# Altium integrated library PowerProducts.IntLib: 595 symbols (part 4 of 6)

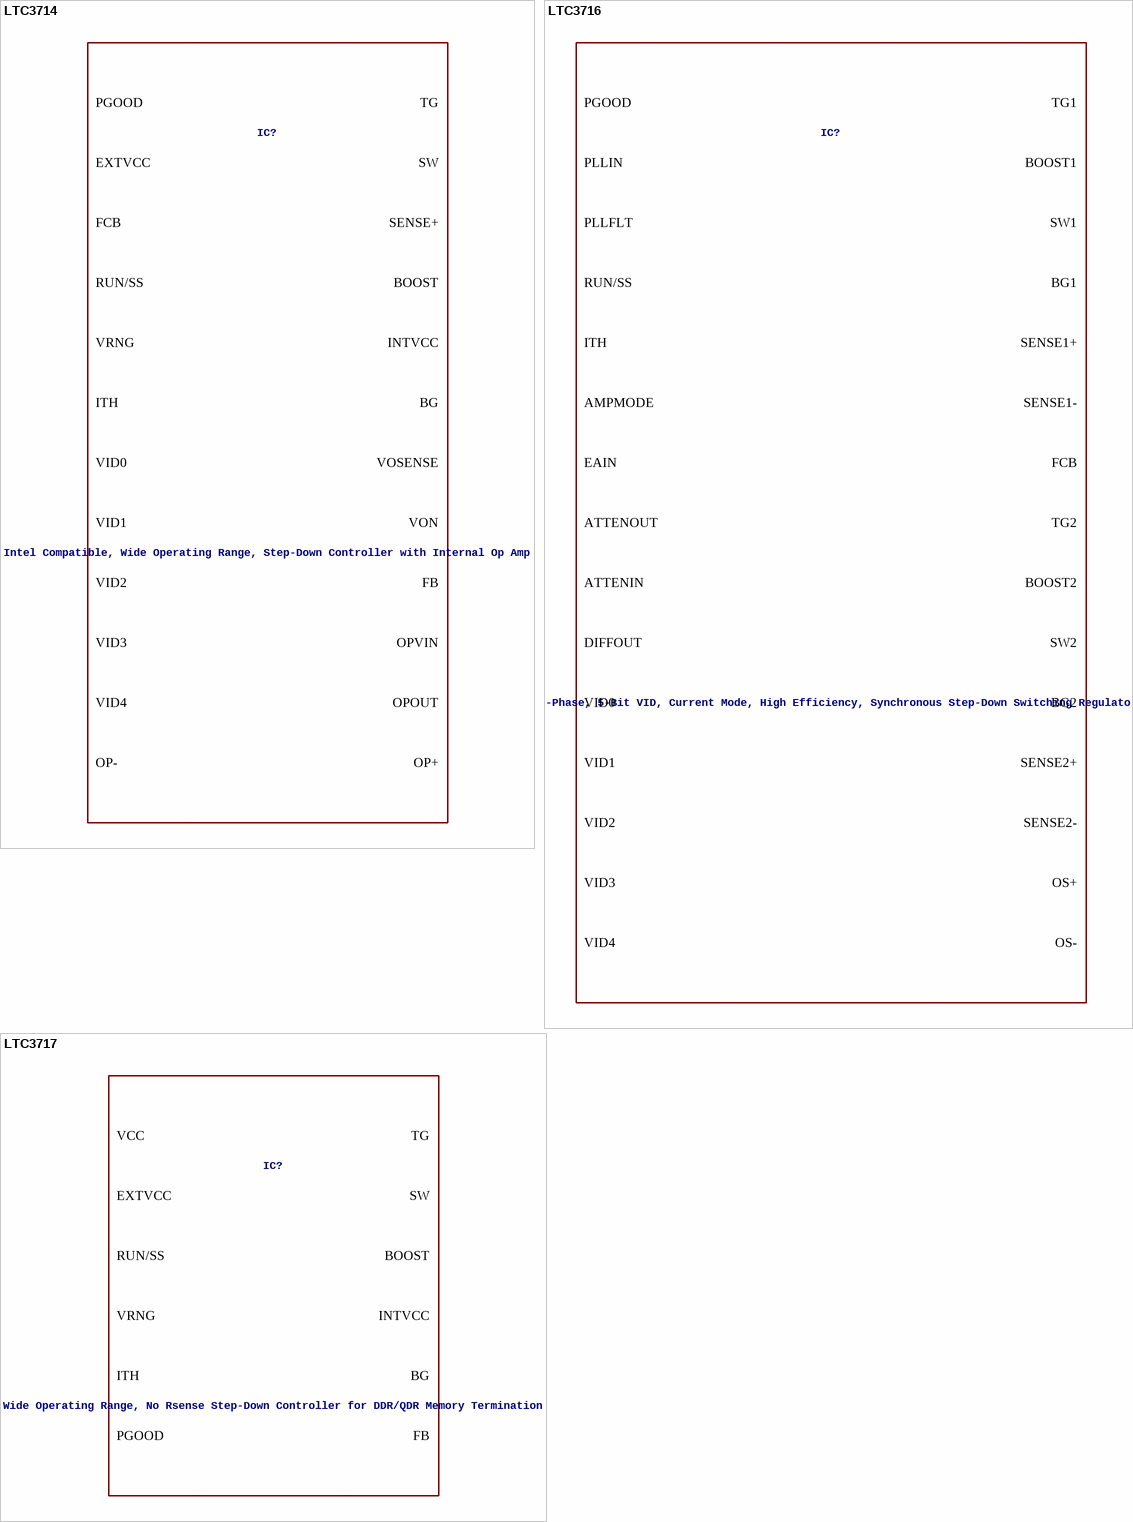
[diagram p66: symbols LTC3714 to LTC3717]

## LTC3714
designator IC?, comment Intel Compatible, Wide Operating Range, Step-Down Controller with Internal Op Amp
VALUE2: LTC3714; SPICEMODEL: LTC3714.sub; SPICEPREFIX: X
footprint SSOP28(G)
pins: 1 BG, 2 PGND, 3 SENSE+, 4 SW, 5 TG, 6 BOOST, 7 VID0, 8 VID1, 9 VID2, 10 RUN/SS, 11 VON, 12 PGOOD, 13 VRNG, 14 ITH, 15 OPVIN, 16 OP-, 17 OP+, 18 OPOUT, 19 SGND, 20 FCB, 21 ION, 22 FB, 23 VOSENSE, 24 VID3, 25 VID4, 26 EXTVCC, 27 VIN, 28 INTVCC

## LTC3716
designator IC?, comment 2-Phase, 5-Bit VID, Current Mode, High Efficiency, Synchronous Step-Down Switching Regulator
VALUE2: LTC3716; SPICEMODEL: LTC3716.sub; SPICEPREFIX: X
footprint SSOP36(G)
pins: 1 RUN/SS, 2 SENSE1+, 3 SENSE1-, 4 EAIN, 5 PLLFLT, 6 PLLIN, 7 FCB, 8 ITH, 9 SGND, 10 DIFFOUT, 11 OS-, 12 OS+, 13 SENSE2-, 14 SENSE2+, 15 ATTENOUT, 16 ATTENIN, 17 VID0, 18 VID1, 19 VID2, 20 VID3, 21 VID4, 22 VBIAS, 23 AMPMODE, 24 TG2, 25 SW2, 26 BOOST2, 27 BG2, 28 PGND, 29 INTVCC, 30 EXTVCC, 31 BG1, 32 VIN, 33 BOOST1, 34 SW1, 35 TG1, 36 PGOOD

## LTC3717
designator IC?, comment Wide Operating Range, No Rsense Step-Down Controller for DDR/QDR Memory Termination
VALUE2: LTC3717; SPICEMODEL: LTC3717.sub; SPICEPREFIX: X
footprint SSOP16(GN)
pins: 1 RUN/SS, 2 PGOOD, 3 VRNG, 4 ITH, 5 SGND, 6 ION, 7 FB, 8 VREF, 9 EXTVCC, 10 VCC, 11 INTVCC, 12 BG, 13 PGND, 14 SW, 15 TG, 16 BOOST

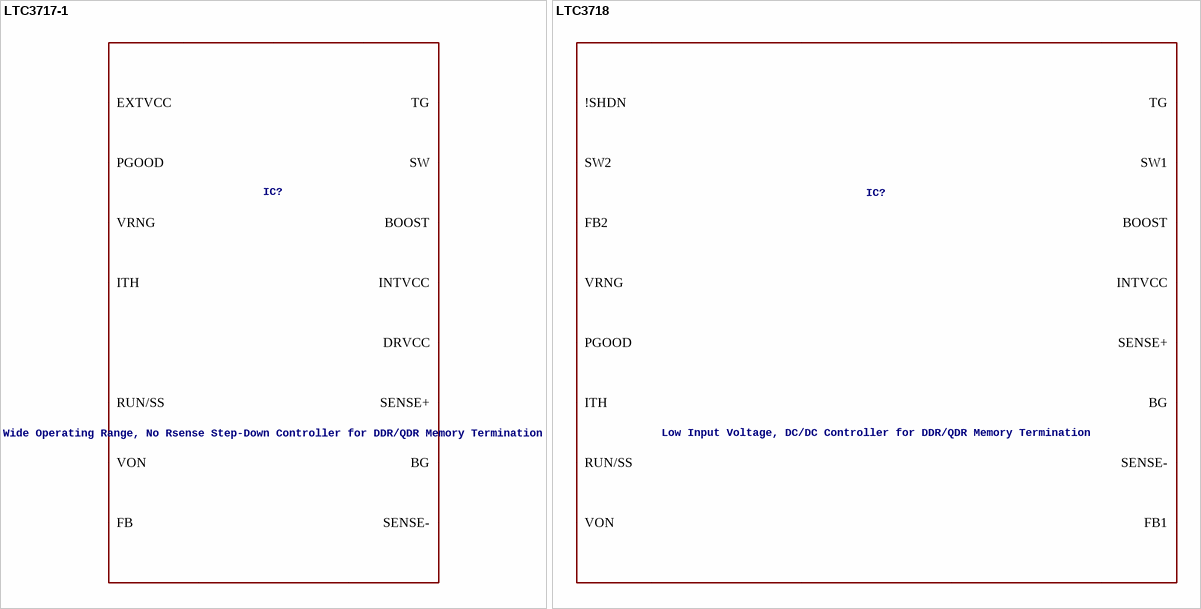
[diagram p67: symbols LTC3717-1 to LTC3718]

## LTC3717-1
designator IC?, comment Wide Operating Range, No Rsense Step-Down Controller for DDR/QDR Memory Termination
VALUE2: LTC3717-1; SPICEMODEL: LTC3717-1.sub; SPICEPREFIX: X
footprint QFN32(UH)
pins: 1 VON, 2 PGOOD, 3 VRNG, 4 ITH, 5 33 SGND, 6 ION, 7 FB, 10 VREF, 15 EXTVCC, 16 VIN, 17 INTVCC, 18 DRVCC, 19 BG, 20 PGND, 21 SENSE-, 23 SENSE+, 24 SW, 27 TG, 28 BOOST, 31 RUN/SS

## LTC3718
designator IC?, comment Low Input Voltage, DC/DC Controller for DDR/QDR Memory Termination
VALUE2: LTC3718; SPICEMODEL: LTC3718.sub; SPICEPREFIX: X
footprint SSOP24(G)
pins: 1 RUN/SS, 2 VON, 3 PGOOD, 4 VRNG, 5 ITH, 6 SGND1, 7 ION, 8 FB1, 9 VREF, 10 !SHDN, 11 SGND2, 12 FB2, 13 SW2, 14 PGND2, 15 VIN2, 16 VIN1, 17 INTVCC, 18 BG, 19 PGND1, 20 SENSE-, 21 SENSE+, 22 SW1, 23 TG, 24 BOOST

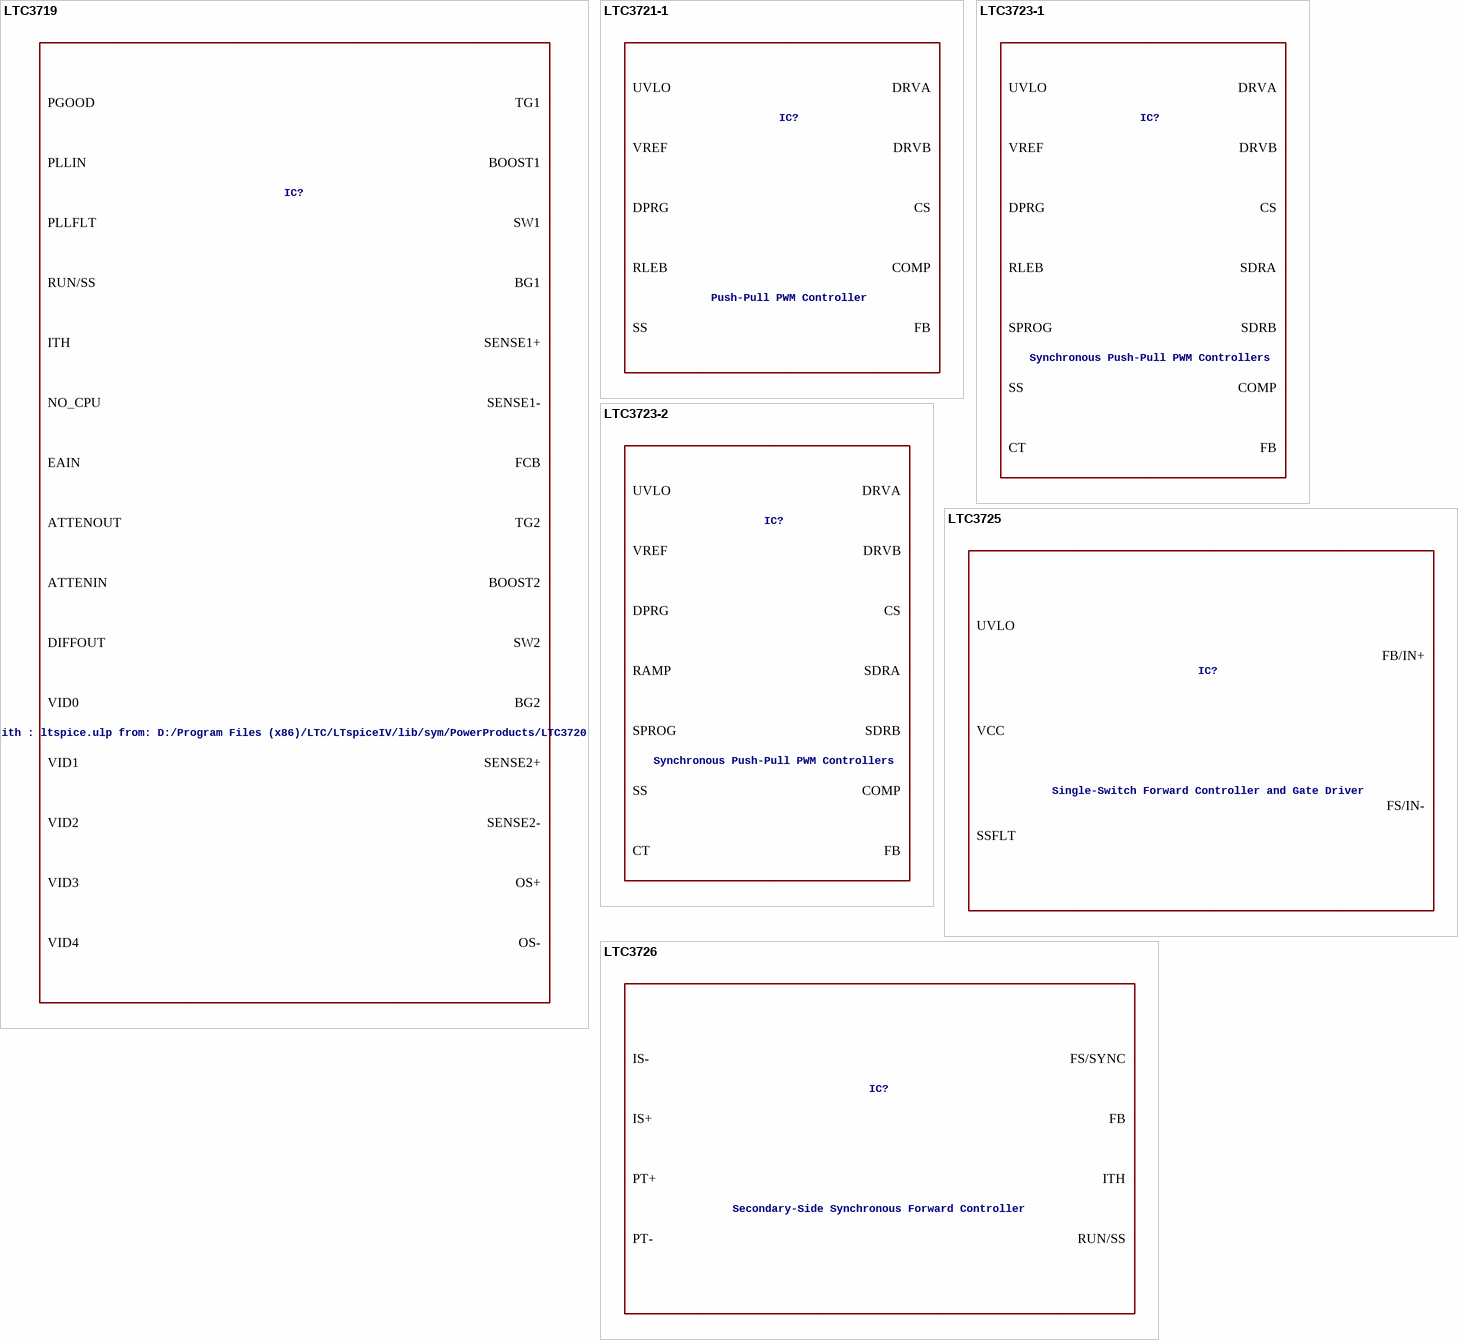
[diagram p68: symbols LTC3719 to LTC3726]

## LTC3719
designator IC?, comment LT-Spice library generated with : ltspice.ulp from: D:/Program Files (x86)/LTC/LTspiceIV/lib/sym/PowerProducts/LTC3720*.asy at 07.10.2012 18:31:01
VALUE2: LTC3719; SPICEMODEL: LTC3719.sub; SPICEPREFIX: X
footprint SSOP36(G)
pins: 1 RUN/SS, 2 SENSE1+, 3 SENSE1-, 4 EAIN, 5 PLLFLT, 6 PLLIN, 7 FCB, 8 ITH, 9 SGND, 10 DIFFOUT, 11 OS-, 12 OS+, 13 SENSE2-, 14 SENSE2+, 15 ATTENOUT, 16 NO_CPU, 17 VID0, 18 VID1, 19 VID2, 20 VID3, 21 VID4, 22 VBIAS, 23 ATTENIN, 24 TG2, 25 SW2, 26 BOOST2, 27 BG2, 28 PGND, 29 INTVCC, 30 EXTVCC, 31 BG1, 32 VIN, 33 BOOST1, 34 SW1, 35 TG1, 36 PGOOD

## LTC3721-1
designator IC?, comment Push-Pull PWM Controller
VALUE2: LTC3721-1; SPICEMODEL: LTC3721-1.sub; SPICEPREFIX: X
footprint QFN16(UF)
pins: 1 DRVB, 2 VCC, 3 DRVA, 4 PGND, 5 17 SGND, 6 CT, 8 DPRG, 9 CS, 10 COMP, 11 RLEB, 12 FB, 13 SS, 14 UVLO, 15 VREF

## LTC3723-1
designator IC?, comment Synchronous Push-Pull PWM Controllers
VALUE2: LTC3723-1; SPICEMODEL: LTC3723-1.sub; SPICEPREFIX: X
footprint SSOP16(GN)
pins: 1 VREF, 2 SDRB, 3 SDRA, 4 DRVB, 5 VCC, 6 DRVA, 7 GND, 8 CT, 9 DPRG, 10 CS, 11 COMP, 12 RLEB, 13 FB, 14 SS, 15 UVLO, 16 SPROG

## LTC3723-2
designator IC?, comment Synchronous Push-Pull PWM Controllers
VALUE2: LTC3723-2; SPICEMODEL: LTC3723-2.sub; SPICEPREFIX: X
footprint SSOP16(GN)
pins: 1 VREF, 2 SDRB, 3 SDRA, 4 DRVB, 5 VCC, 6 DRVA, 7 GND, 8 CT, 9 RAMP, 10 CS, 11 COMP, 12 DPRG, 13 FB, 14 SS, 15 UVLO, 16 SPROG

## LTC3725
designator IC?, comment Single-Switch Forward Controller and Gate Driver
VALUE2: LTC3725; SPICEMODEL: LTC3725.sub; SPICEPREFIX: X
footprint MSOP10(MSE)
pins: 1 UVLO, 2 SSFLT, 3 NDRV, 4 FB/IN+, 5 FS/IN-, 6 PGND, 7 GATE, 8 VCC, 9 VSLMT, 10 IS, 11 GND

## LTC3726
designator IC?, comment Secondary-Side Synchronous Forward Controller
VALUE2: LTC3726; SPICEMODEL: LTC3726.sub; SPICEPREFIX: X
footprint SSOP16(GN)
pins: 1 SG, 2 FG, 3 MODE, 4 FB, 5 ITH, 6 RUN/SS, 7 SLP, 8 GND, 9 FS/SYNC, 10 IS-, 11 IS+, 12 SW, 13 PGND, 14 PT-, 15 PT+, 16 VCC

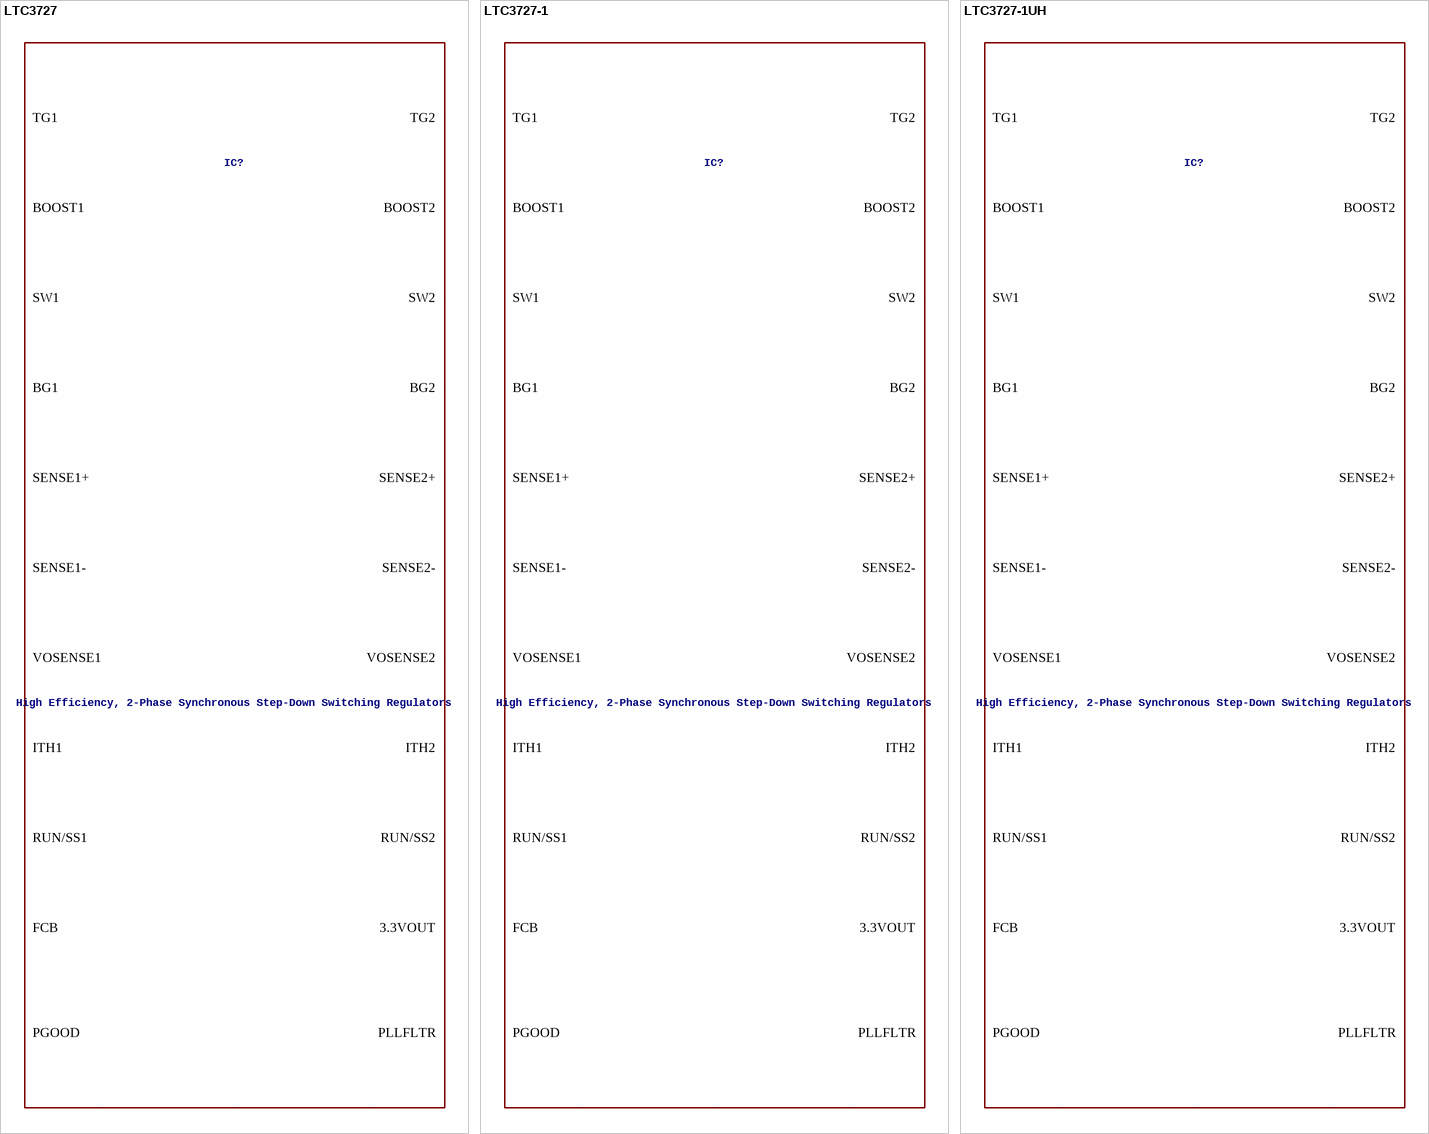
[diagram p69: symbols LTC3727 to LTC3727-1UH]

## LTC3727
designator IC?, comment High Efficiency, 2-Phase Synchronous Step-Down Switching Regulators
VALUE2: LTC3727; SPICEMODEL: LTC3727.sub; SPICEPREFIX: X
footprint SSOP28(G)
pins: 1 RUN/SS1, 2 SENSE1+, 3 SENSE1-, 4 VOSENSE1, 5 PLLFLTR, 6 PLLIN, 7 FCB, 8 ITH1, 9 SGND, 10 3.3VOUT, 11 ITH2, 12 VOSENSE2, 13 SENSE2-, 14 SENSE2+, 15 RUN/SS2, 16 TG2, 17 SW2, 18 BOOST2, 19 BG2, 20 PGND, 21 INTVCC, 22 EXTVCC, 23 BG1, 24 VIN, 25 BOOST1, 26 SW1, 27 TG1, 28 PGOOD

## LTC3727-1
designator IC?, comment High Efficiency, 2-Phase Synchronous Step-Down Switching Regulators
VALUE2: LTC3727; SPICEMODEL: LTC3727.sub; SPICEPREFIX: X
footprint SSOP28(G)
pins: 1 RUN/SS1, 2 SENSE1+, 3 SENSE1-, 4 VOSENSE1, 5 PLLFLTR, 6 PLLIN, 7 FCB, 8 ITH1, 9 SGND, 10 3.3VOUT, 11 ITH2, 12 VOSENSE2, 13 SENSE2-, 14 SENSE2+, 15 RUN/SS2, 16 TG2, 17 SW2, 18 BOOST2, 19 BG2, 20 PGND, 21 INTVCC, 22 EXTVCC, 23 BG1, 24 VIN, 25 BOOST1, 26 SW1, 27 TG1, 28 PGOOD

## LTC3727-1UH
designator IC?, comment High Efficiency, 2-Phase Synchronous Step-Down Switching Regulators
VALUE2: LTC3727; SPICEMODEL: LTC3727.sub; SPICEPREFIX: X
footprint QFN32(UH)
pins: 1 VOSENSE1, 2 PLLFLTR, 3 PLLIN, 4 FCB, 5 ITH1, 6 33 SGND, 7 3.3VOUT, 8 ITH2, 9 VOSENSE2, 11 SENSE2-, 12 SENSE2+, 13 RUN/SS2, 14 TG2, 15 SW2, 17 BOOST2, 18 BG2, 19 PGND, 20 INTVCC, 21 EXTVCC, 22 BG1, 23 VIN, 24 BOOST1, 25 SW1, 26 TG1, 27 PGOOD, 28 RUN/SS1, 30 SENSE1+, 31 SENSE1-

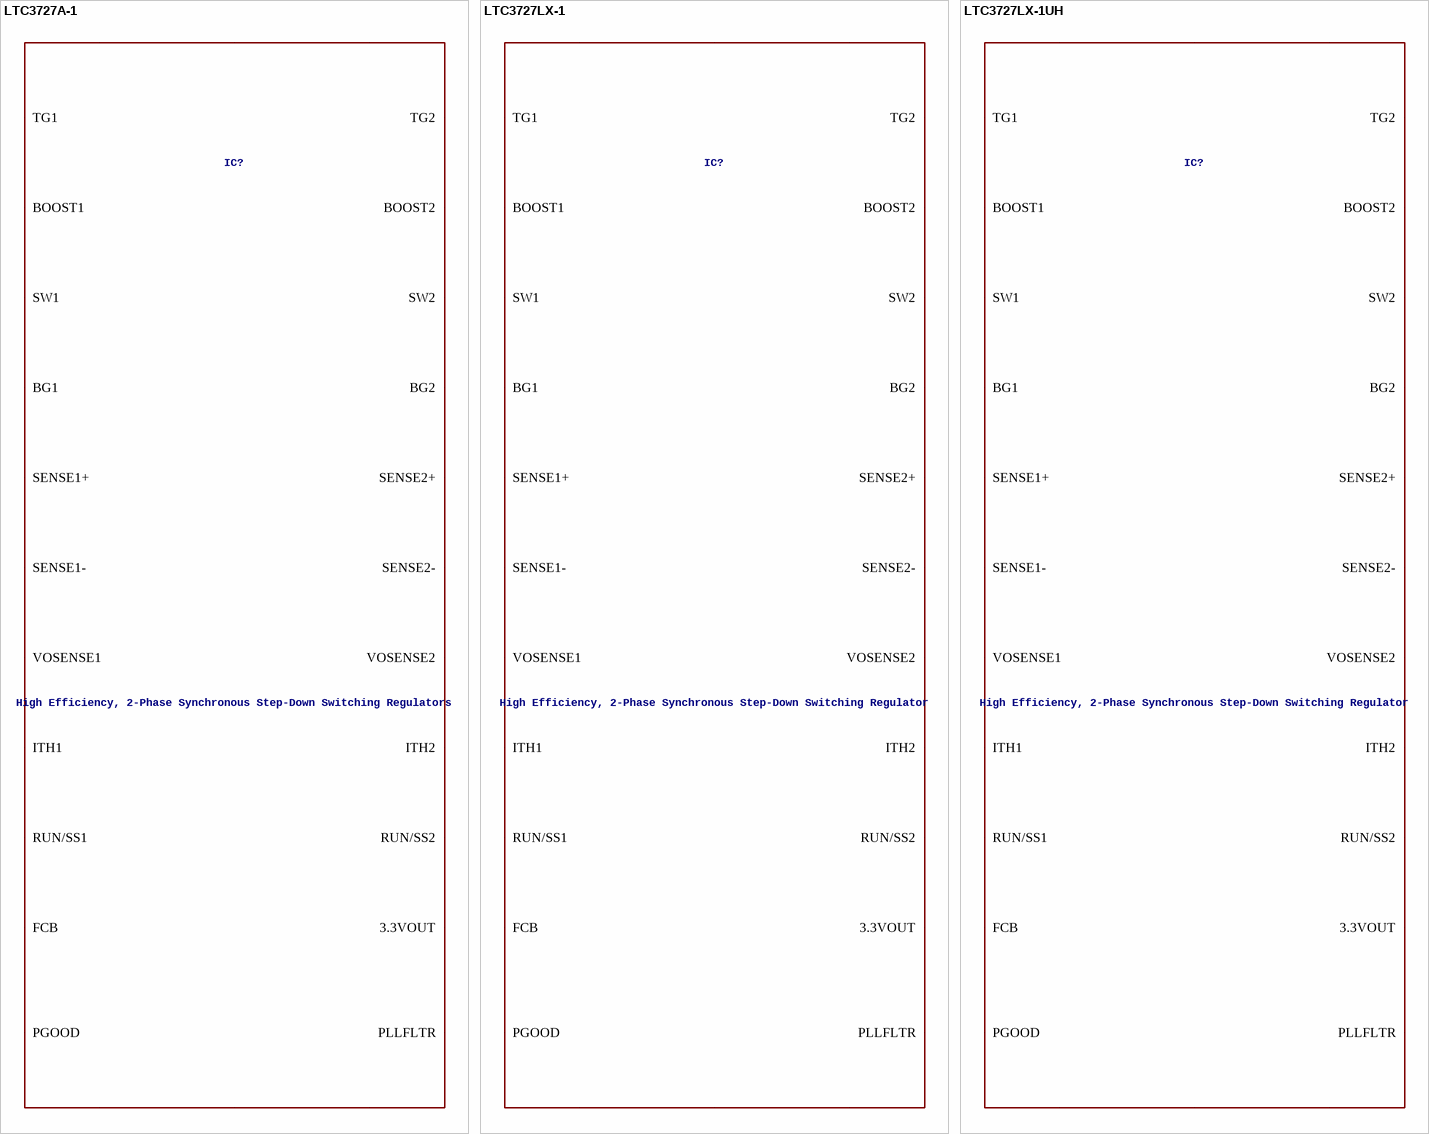
[diagram p70: symbols LTC3727A-1 to LTC3727LX-1UH]

## LTC3727A-1
designator IC?, comment High Efficiency, 2-Phase Synchronous Step-Down Switching Regulators
VALUE2: LTC3727A-1; SPICEMODEL: LTC3727A-1.sub; SPICEPREFIX: X
footprint SSOP28(G)
pins: 1 RUN/SS1, 2 SENSE1+, 3 SENSE1-, 4 VOSENSE1, 5 PLLFLTR, 6 PLLIN, 7 FCB, 8 ITH1, 9 SGND, 10 3.3VOUT, 11 ITH2, 12 VOSENSE2, 13 SENSE2-, 14 SENSE2+, 15 RUN/SS2, 16 TG2, 17 SW2, 18 BOOST2, 19 BG2, 20 PGND, 21 INTVCC, 22 EXTVCC, 23 BG1, 24 VIN, 25 BOOST1, 26 SW1, 27 TG1, 28 PGOOD

## LTC3727LX-1
designator IC?, comment High Efficiency, 2-Phase Synchronous Step-Down Switching Regulator
VALUE2: LTC3727A-1; SPICEMODEL: LTC3727A-1.sub; SPICEPREFIX: X
footprint SSOP28(G)
pins: 1 RUN/SS1, 2 SENSE1+, 3 SENSE1-, 4 VOSENSE1, 5 PLLFLTR, 6 PLLIN, 7 FCB, 8 ITH1, 9 SGND, 10 3.3VOUT, 11 ITH2, 12 VOSENSE2, 13 SENSE2-, 14 SENSE2+, 15 RUN/SS2, 16 TG2, 17 SW2, 18 BOOST2, 19 BG2, 20 PGND, 21 INTVCC, 22 EXTVCC, 23 BG1, 24 VIN, 25 BOOST1, 26 SW1, 27 TG1, 28 PGOOD

## LTC3727LX-1UH
designator IC?, comment High Efficiency, 2-Phase Synchronous Step-Down Switching Regulator
VALUE2: LTC3727A-1; SPICEMODEL: LTC3727A-1.sub; SPICEPREFIX: X
footprint QFN32(UH)
pins: 1 VOSENSE1, 2 PLLFLTR, 3 PLLIN, 4 FCB, 5 ITH1, 6 33 SGND, 7 3.3VOUT, 8 ITH2, 9 VOSENSE2, 11 SENSE2-, 12 SENSE2+, 13 RUN/SS2, 14 TG2, 15 SW2, 17 BOOST2, 18 BG2, 19 PGND, 20 INTVCC, 21 EXTVCC, 22 BG1, 23 VIN, 24 BOOST1, 25 SW1, 26 TG1, 27 PGOOD, 28 RUN/SS1, 30 SENSE1+, 31 SENSE1-

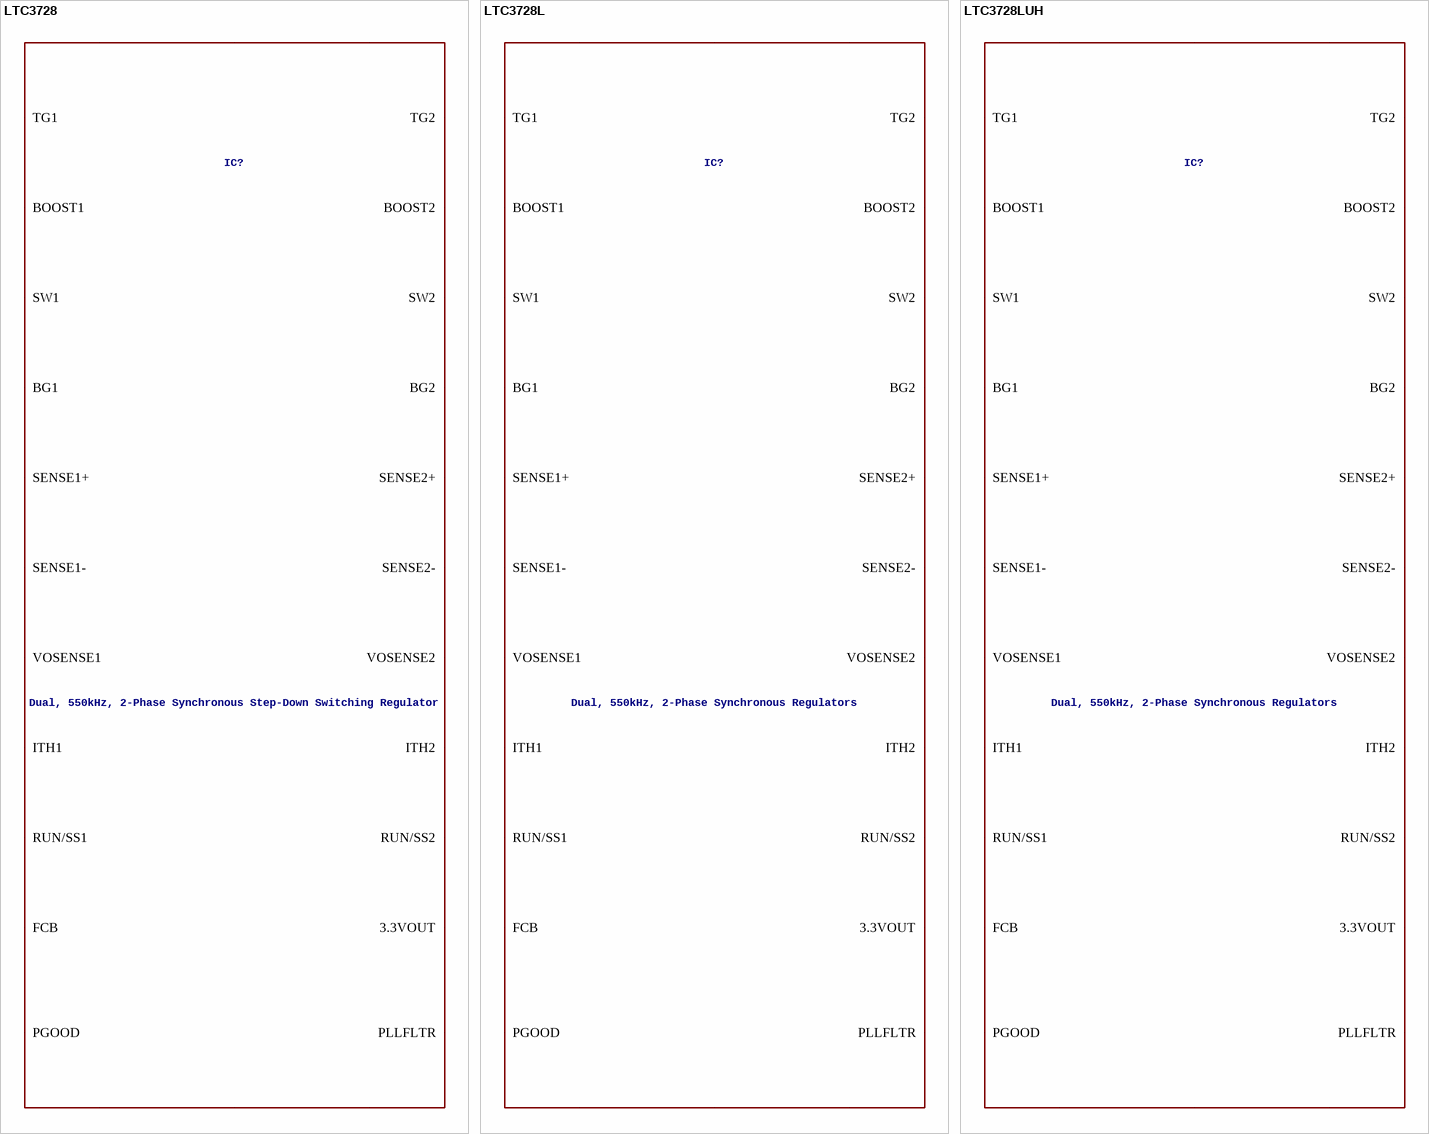
[diagram p71: symbols LTC3728 to LTC3728LUH]

## LTC3728
designator IC?, comment Dual, 550kHz, 2-Phase Synchronous Step-Down Switching Regulator
VALUE2: LTC3728; SPICEMODEL: LTC3728.sub; SPICEPREFIX: X
footprint SSOP28(G)
pins: 1 RUN/SS1, 2 SENSE1+, 3 SENSE1-, 4 VOSENSE1, 5 PLLFLTR, 6 PLLIN, 7 FCB, 8 ITH1, 9 SGND, 10 3.3VOUT, 11 ITH2, 12 VOSENSE2, 13 SENSE2-, 14 SENSE2+, 15 RUN/SS2, 16 TG2, 17 SW2, 18 BOOST2, 19 BG2, 20 PGND, 21 INTVCC, 22 EXTVCC, 23 BG1, 24 VIN, 25 BOOST1, 26 SW1, 27 TG1, 28 PGOOD

## LTC3728L
designator IC?, comment Dual, 550kHz, 2-Phase Synchronous Regulators
VALUE2: LTC3728; SPICEMODEL: LTC3728.sub; SPICEPREFIX: X
footprint SSOP28(GN)
pins: 1 RUN/SS1, 2 SENSE1+, 3 SENSE1-, 4 VOSENSE1, 5 PLLFLTR, 6 PLLIN, 7 FCB, 8 ITH1, 9 SGND, 10 3.3VOUT, 11 ITH2, 12 VOSENSE2, 13 SENSE2-, 14 SENSE2+, 15 RUN/SS2, 16 TG2, 17 SW2, 18 BOOST2, 19 BG2, 20 PGND, 21 INTVCC, 22 EXTVCC, 23 BG1, 24 VIN, 25 BOOST1, 26 SW1, 27 TG1, 28 PGOOD

## LTC3728LUH
designator IC?, comment Dual, 550kHz, 2-Phase Synchronous Regulators
VALUE2: LTC3728; SPICEMODEL: LTC3728.sub; SPICEPREFIX: X
footprint QFN32(UH)
pins: 1 VOSENSE1, 2 PLLFLTR, 3 PLLIN, 4 FCB, 5 ITH1, 6 33 SGND, 7 3.3VOUT, 8 ITH2, 9 VOSENSE2, 11 SENSE2-, 12 SENSE2+, 13 RUN/SS2, 14 TG2, 15 SW2, 17 BOOST2, 18 BG2, 19 PGND, 20 INTVCC, 21 EXTVCC, 22 BG1, 23 VIN, 24 BOOST1, 25 SW1, 26 TG1, 27 PGOOD, 28 RUN/SS1, 30 SENSE1+, 31 SENSE1-

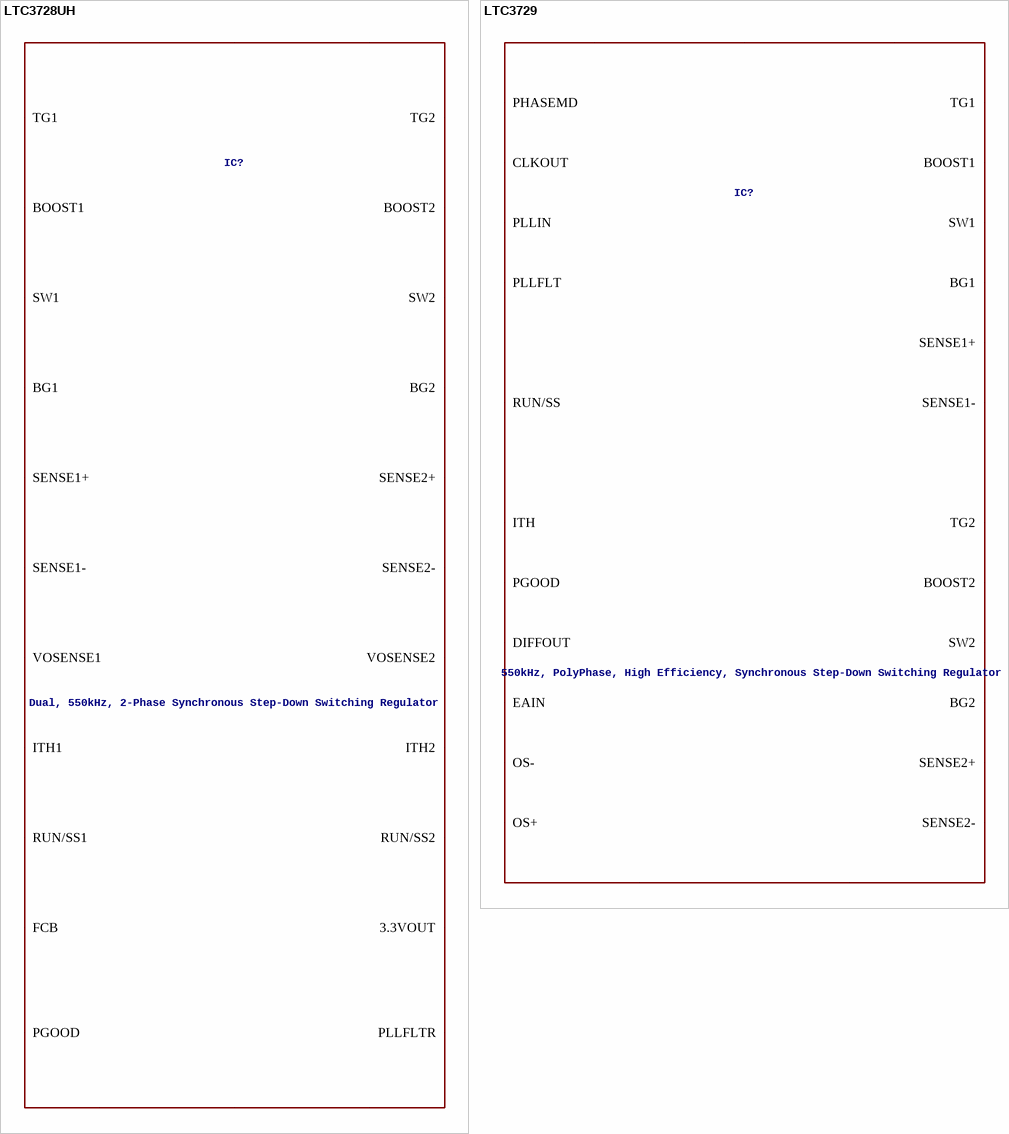
[diagram p72: symbols LTC3728UH to LTC3729]

## LTC3728UH
designator IC?, comment Dual, 550kHz, 2-Phase Synchronous Step-Down Switching Regulator
VALUE2: LTC3728; SPICEMODEL: LTC3728.sub; SPICEPREFIX: X
footprint QFN32(UH)
pins: 1 VOSENSE1, 2 PLLFLTR, 3 PLLIN, 4 FCB, 5 ITH1, 6 33 SGND, 7 3.3VOUT, 8 ITH2, 9 VOSENSE2, 11 SENSE2-, 12 SENSE2+, 13 RUN/SS2, 14 TG2, 15 SW2, 17 BOOST2, 18 BG2, 19 PGND, 20 INTVCC, 21 EXTVCC, 22 BG1, 23 VIN, 24 BOOST1, 25 SW1, 26 TG1, 27 PGOOD, 28 RUN/SS1, 30 SENSE1+, 31 SENSE1-

## LTC3729
designator IC?, comment 550kHz, PolyPhase, High Efficiency, Synchronous Step-Down Switching Regulator
VALUE2: LTC3729; SPICEMODEL: LTC3729.sub; SPICEPREFIX: X
footprint SSOP28(G)
pins: 1 RUN/SS, 2 SENSE1+, 3 SENSE1-, 4 EAIN, 5 PLLFLT, 6 PLLIN, 7 PHASEMD, 8 ITH, 9 SGND, 10 DIFFOUT, 11 OS-, 12 OS+, 13 SENSE2-, 14 SENSE2+, 15 PGOOD, 16 TG2, 17 SW2, 18 BOOST2, 19 BG2, 20 PGND, 21 INTVCC, 22 EXTVCC, 23 BG1, 24 VIN, 25 BOOST1, 26 SW1, 27 TG1, 28 CLKOUT

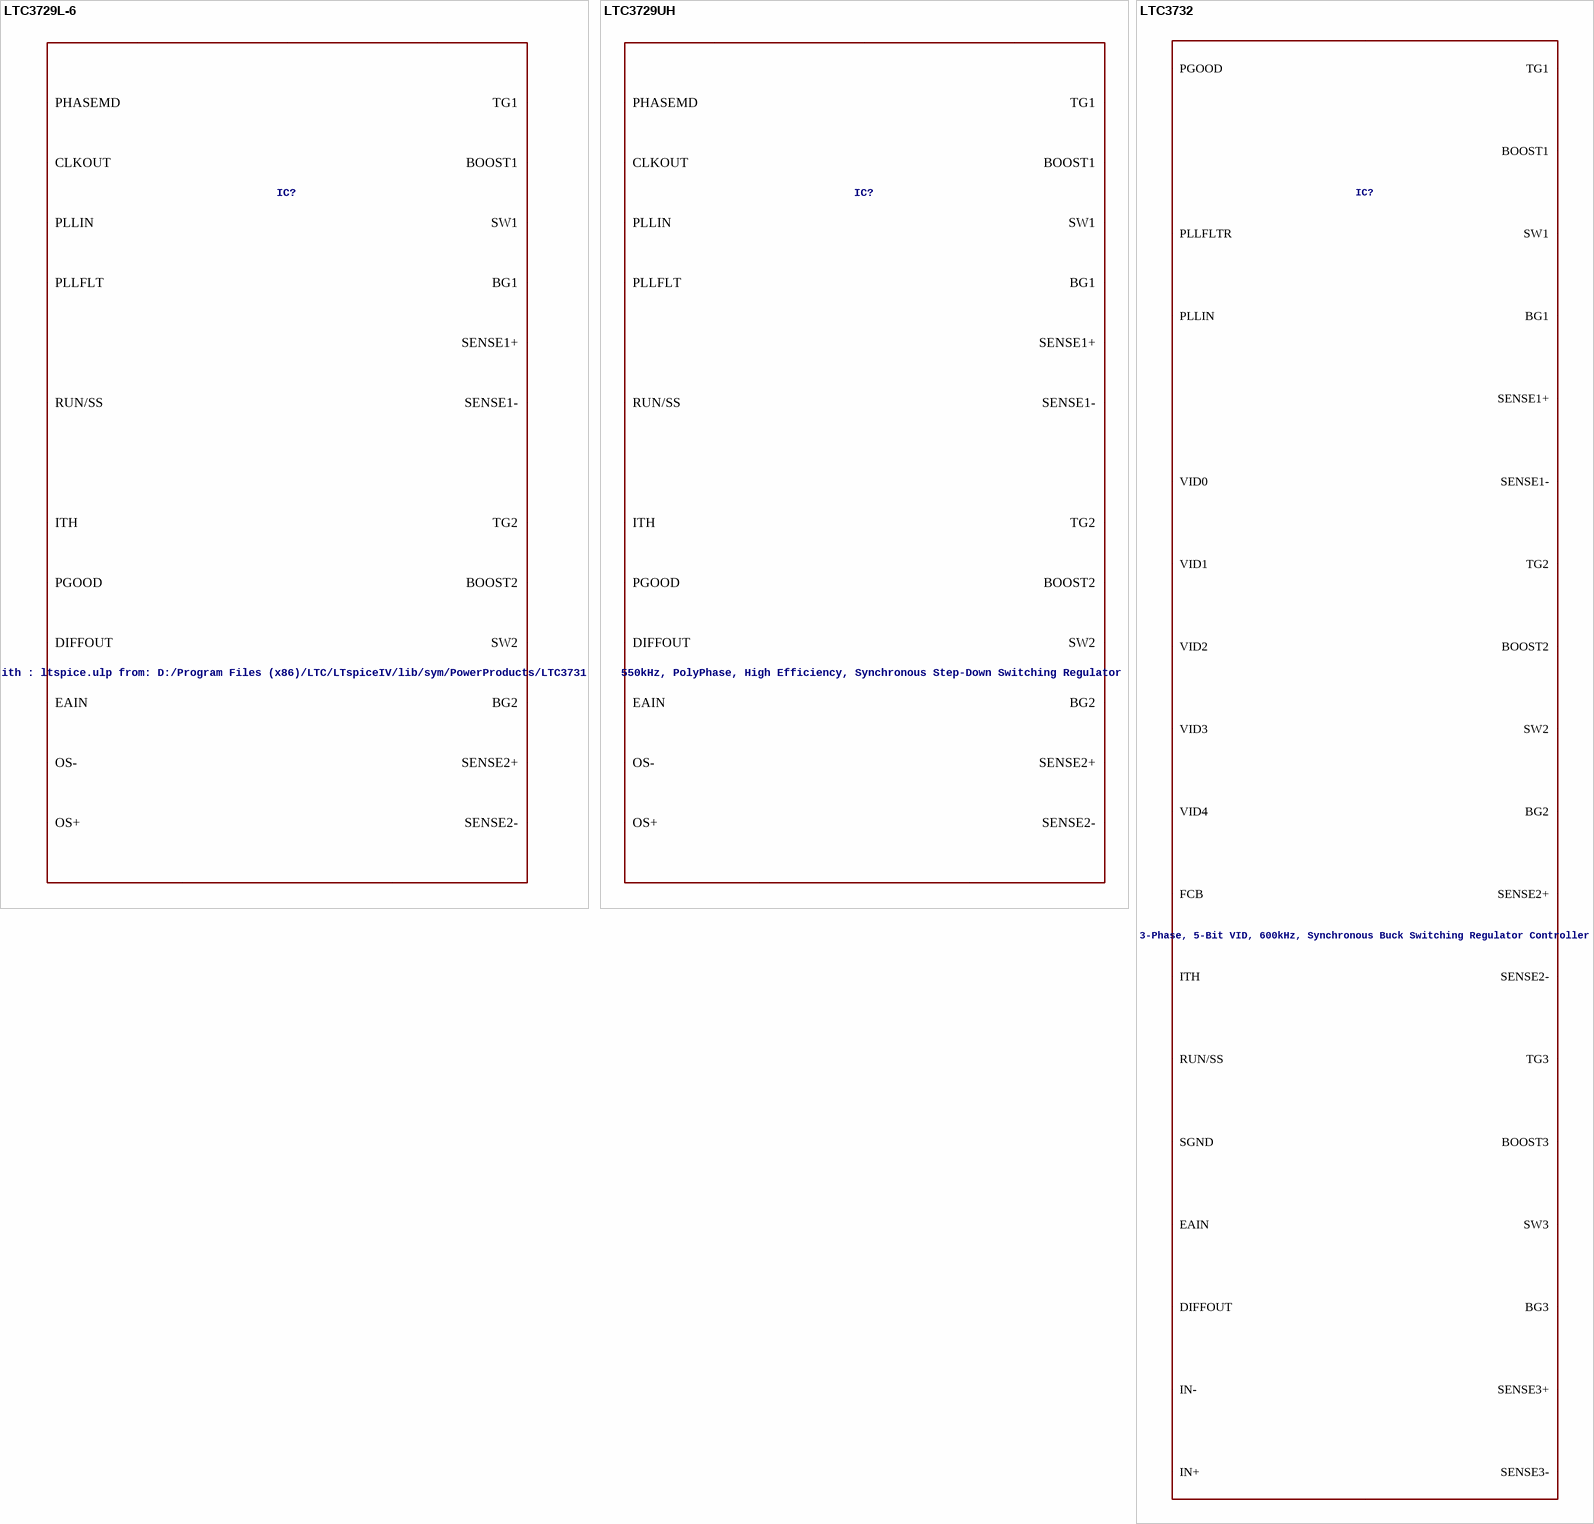
[diagram p73: symbols LTC3729L-6 to LTC3732]

## LTC3729L-6
designator IC?, comment LT-Spice library generated with : ltspice.ulp from: D:/Program Files (x86)/LTC/LTspiceIV/lib/sym/PowerProducts/LTC3731*.asy at 07.10.2012 18:31:47
VALUE2: LTC3729L-6; SPICEMODEL: LTC3729L-6.sub; SPICEPREFIX: X
footprint QFN32(UH)
pins: 1 EAIN, 2 PLLFLT, 3 PLLIN, 4 PHASEMD, 5 ITH, 6 33 SGND, 7 DIFFOUT, 8 OS-, 9 OS+, 11 SENSE2-, 12 SENSE2+, 13 PGOOD, 14 TG2, 15 SW2, 17 BOOST2, 18 BG2, 19 PGND, 20 INTVCC, 21 EXTVCC, 22 BG1, 23 VIN, 24 BOOST1, 25 SW1, 26 TG1, 27 CLKOUT, 28 RUN/SS, 30 SENSE1+, 31 SENSE1-

## LTC3729UH
designator IC?, comment 550kHz, PolyPhase, High Efficiency, Synchronous Step-Down Switching Regulator
VALUE2: LTC3729; SPICEMODEL: LTC3729.sub; SPICEPREFIX: X
footprint QFN32(UH)
pins: 1 EAIN, 2 PLLFLT, 3 PLLIN, 4 PHASEMD, 5 ITH, 6 33 SGND, 7 DIFFOUT, 8 OS-, 9 OS+, 11 SENSE2-, 12 SENSE2+, 13 PGOOD, 14 TG2, 15 SW2, 17 BOOST2, 18 BG2, 19 PGND, 20 INTVCC, 21 EXTVCC, 22 BG1, 23 VIN, 24 BOOST1, 25 SW1, 26 TG1, 27 CLKOUT, 28 RUN/SS, 30 SENSE1+, 31 SENSE1-

## LTC3732
designator IC?, comment 3-Phase, 5-Bit VID, 600kHz, Synchronous Buck Switching Regulator Controller
VALUE2: LTC3732; SPICEMODEL: LTC3732.sub; SPICEPREFIX: X
footprint SSOP36(G)
pins: 1 VID1, 2 PLLIN, 3 PLLFLTR, 4 FCB, 5 IN+, 6 IN-, 7 DIFFOUT, 8 EAIN, 9 SGND, 10 SENSE1+, 11 SENSE1-, 12 SENSE2+, 13 SENSE2-, 14 SENSE3-, 15 SENSE3+, 16 RUN/SS, 17 ITH, 18 VID2, 19 VID3, 20 VID4, 21 BOOST3, 22 TG3, 23 SW3, 24 BG3, 25 BG2, 26 PGND, 27 BG1, 28 VCC, 29 SW2, 30 TG2, 31 BOOST2, 32 SW1, 33 TG1, 34 BOOST1, 35 PGOOD, 36 VID0

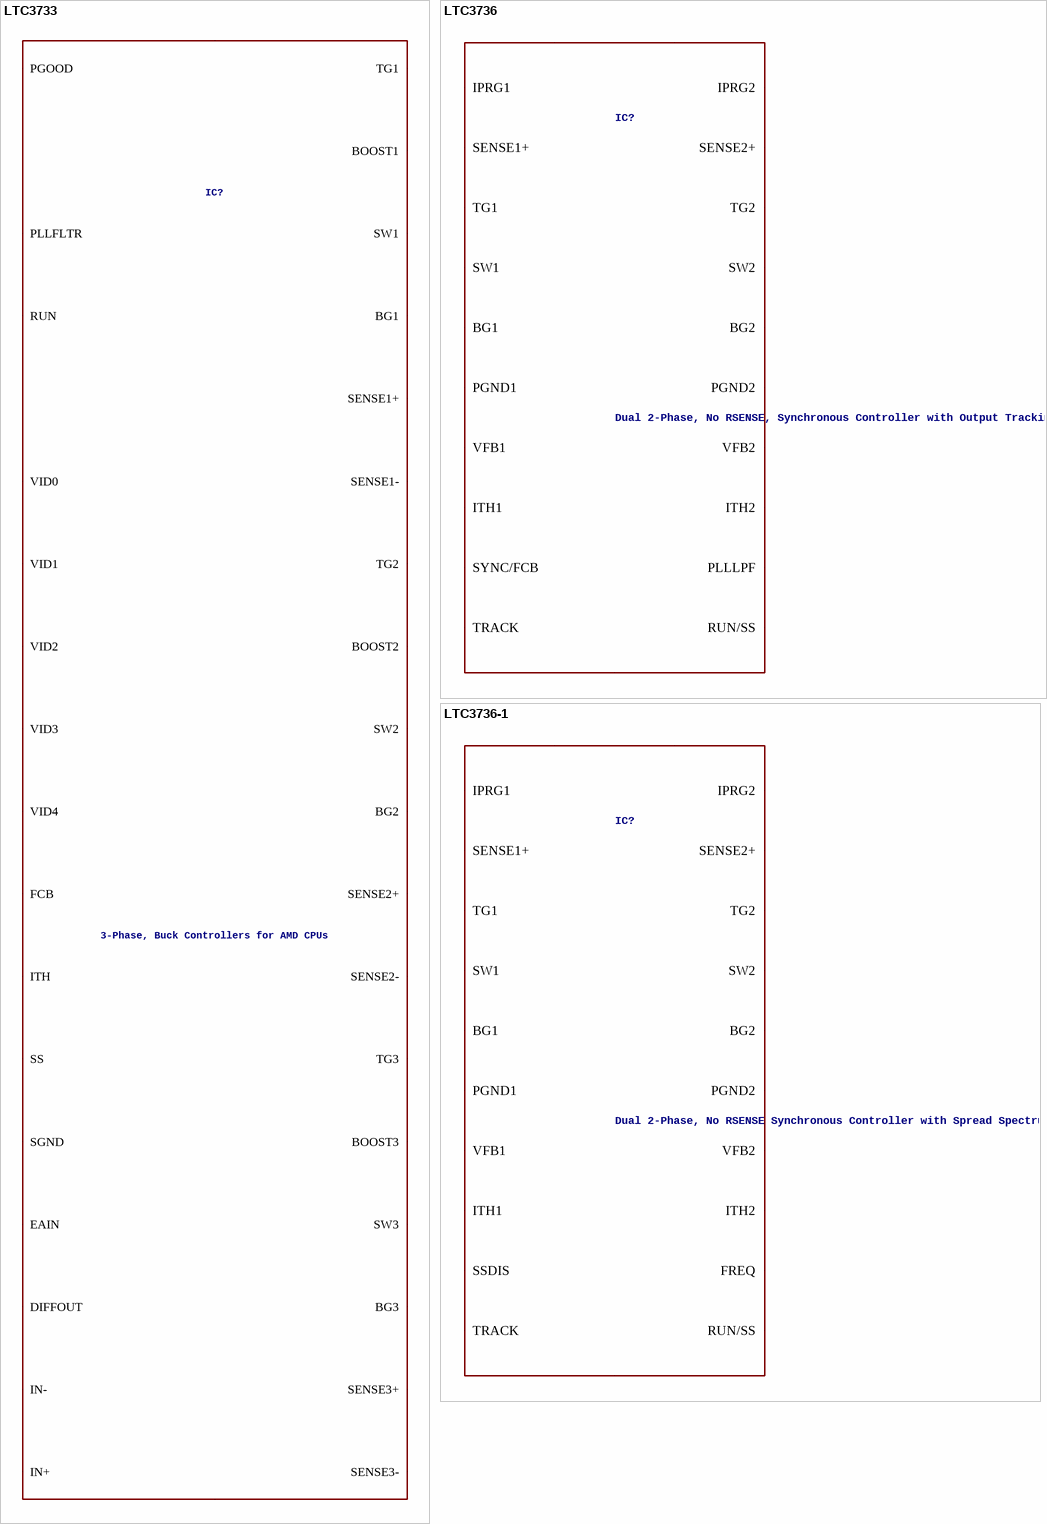
[diagram p74: symbols LTC3733 to LTC3736-1]

## LTC3733
designator IC?, comment 3-Phase, Buck Controllers for AMD CPUs
VALUE2: LTC3733; SPICEMODEL: LTC3733.sub; SPICEPREFIX: X
footprint SSOP36(G)
pins: 1 VID1, 2 RUN, 3 PLLFLTR, 4 FCB, 5 IN+, 6 IN-, 7 DIFFOUT, 8 EAIN, 9 SGND, 10 SENSE1+, 11 SENSE1-, 12 SENSE2+, 13 SENSE2-, 14 SENSE3-, 15 SENSE3+, 16 SS, 17 ITH, 18 VID2, 19 VID3, 20 VID4, 21 BOOST3, 22 TG3, 23 SW3, 24 BG3, 25 BG2, 26 PGND, 27 BG1, 28 VCC, 29 SW2, 30 TG2, 31 BOOST2, 32 SW1, 33 TG1, 34 BOOST1, 35 PGOOD, 36 VID0

## LTC3736
designator IC?, comment Dual 2-Phase, No RSENSE, Synchronous Controller with Output Tracking
VALUE2: LTC3736; SPICEMODEL: LTC3736.sub; SPICEPREFIX: X
footprint SSOP24(GN)
pins: 1 SW1, 2 IPRG1, 3 VFB1, 4 ITH1, 5 IPRG2, 6 PLLLPF, 7 SGND, 8 VIN, 9 TRACK, 10 VFB2, 11 ITH2, 12 PGOOD, 13 SW2, 14 SENSE2+, 15 19 PGND2, 16 BG2, 17 RUN/SS, 18 TG2, 20 TG1, 21 SYNC/FCB, 22 BG1, 23 PGND1, 24 SENSE1+

## LTC3736-1
designator IC?, comment Dual 2-Phase, No RSENSE Synchronous Controller with Spread Spectrum
VALUE2: LTC3736-1; SPICEMODEL: LTC3736-1.sub; SPICEPREFIX: X
footprint SSOP24(GN)
pins: 1 SW1, 2 IPRG1, 3 VFB1, 4 ITH1, 5 IPRG2, 6 FREQ, 7 SGND, 8 VIN, 9 TRACK, 10 VFB2, 11 ITH2, 12 PGOOD, 13 SW2, 14 SENSE2+, 15 19 PGND2, 16 BG2, 17 RUN/SS, 18 TG2, 20 TG1, 21 SSDIS, 22 BG1, 23 PGND1, 24 SENSE1+

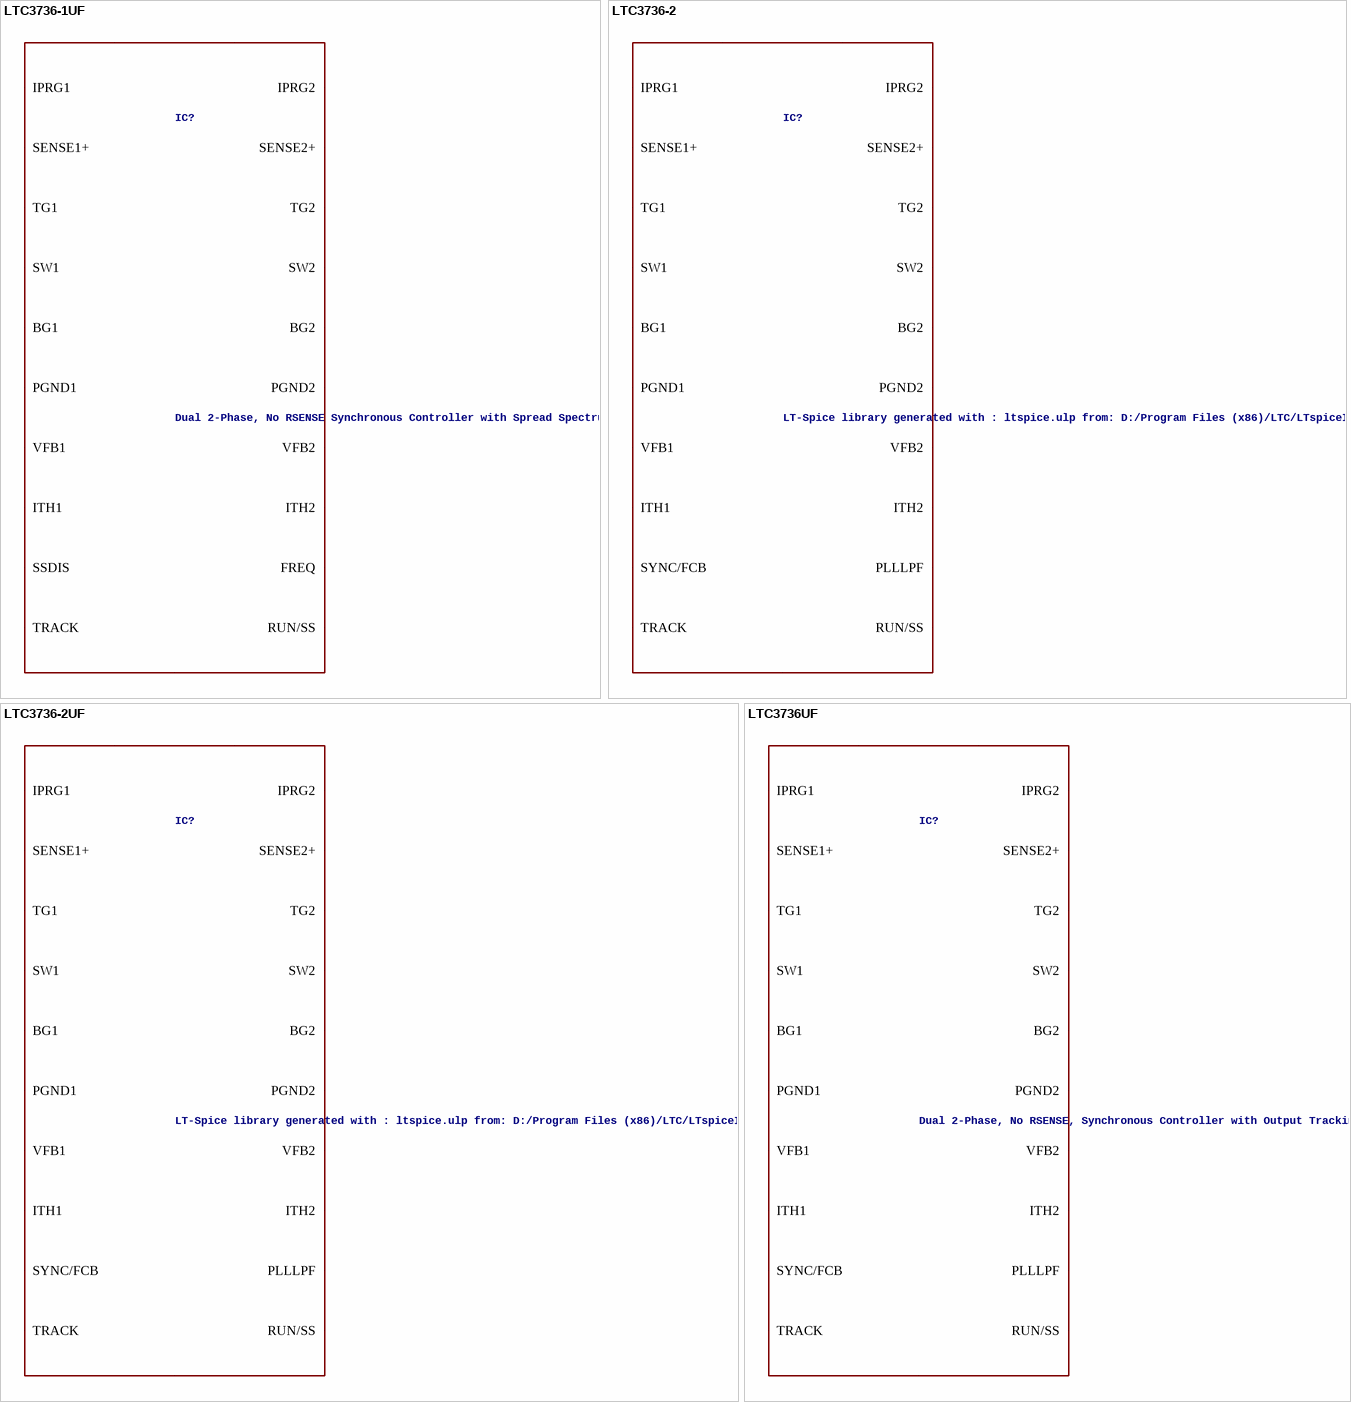
[diagram p75: symbols LTC3736-1UF to LTC3736UF]

## LTC3736-1UF
designator IC?, comment Dual 2-Phase, No RSENSE Synchronous Controller with Spread Spectrum
VALUE2: LTC3736-1; SPICEMODEL: LTC3736-1.sub; SPICEPREFIX: X
footprint QFN24(UF)
pins: 1 ITH1, 2 IPRG2, 3 FREQ, 4 SGND, 5 VIN, 6 TRACK, 7 VFB2, 8 ITH2, 9 PGOOD, 10 SW2, 11 SENSE2+, 12 16 PGND2, 13 BG2, 14 RUN/SS, 15 TG2, 17 TG1, 18 SSDIS, 19 BG1, 20 25 PGND1, 21 SENSE1+, 22 SW1, 23 IPRG1, 24 VFB1

## LTC3736-2
designator IC?, comment LT-Spice library generated with : ltspice.ulp from: D:/Program Files (x86)/LTC/LTspiceIV/lib/sym/PowerProducts/LTC3765*.asy at 07.10.2012 18:32:24
VALUE2: LTC3736-2; SPICEMODEL: LTC3736-2.sub; SPICEPREFIX: X
footprint SSOP24(GN)
pins: 1 SW1, 2 IPRG1, 3 VFB1, 4 ITH1, 5 IPRG2, 6 PLLLPF, 7 SGND, 8 VIN, 9 TRACK, 10 VFB2, 11 ITH2, 12 PGOOD, 13 SW2, 14 SENSE2+, 15 19 PGND2, 16 BG2, 17 RUN/SS, 18 TG2, 20 TG1, 21 SYNC/FCB, 22 BG1, 23 PGND1, 24 SENSE1+

## LTC3736-2UF
designator IC?, comment LT-Spice library generated with : ltspice.ulp from: D:/Program Files (x86)/LTC/LTspiceIV/lib/sym/PowerProducts/LTC3765*.asy at 07.10.2012 18:32:24
VALUE2: LTC3736-2; SPICEMODEL: LTC3736-2.sub; SPICEPREFIX: X
footprint QFN24(UF)
pins: 1 ITH1, 2 IPRG2, 3 PLLLPF, 4 SGND, 5 VIN, 6 TRACK, 7 VFB2, 8 ITH2, 9 PGOOD, 10 SW2, 11 SENSE2+, 12 16 PGND1, 13 BG2, 14 RUN/SS, 15 TG2, 17 TG1, 18 SYNC/FCB, 19 BG1, 20 25 PGND2, 21 SENSE1+, 22 SW1, 23 IPRG1, 24 VFB1

## LTC3736UF
designator IC?, comment Dual 2-Phase, No RSENSE, Synchronous Controller with Output Tracking
VALUE2: LTC3736; SPICEMODEL: LTC3736.sub; SPICEPREFIX: X
footprint QFN24(UF)
pins: 1 ITH1, 2 IPRG2, 3 PLLLPF, 4 SGND, 5 VIN, 6 TRACK, 7 VFB2, 8 ITH2, 9 PGOOD, 10 SW2, 11 SENSE2+, 12 16 PGND2, 13 BG2, 14 RUN/SS, 15 TG2, 17 TG1, 18 SYNC/FCB, 19 BG1, 20 25 PGND1, 21 SENSE1+, 22 SW1, 23 IPRG1, 24 VFB1

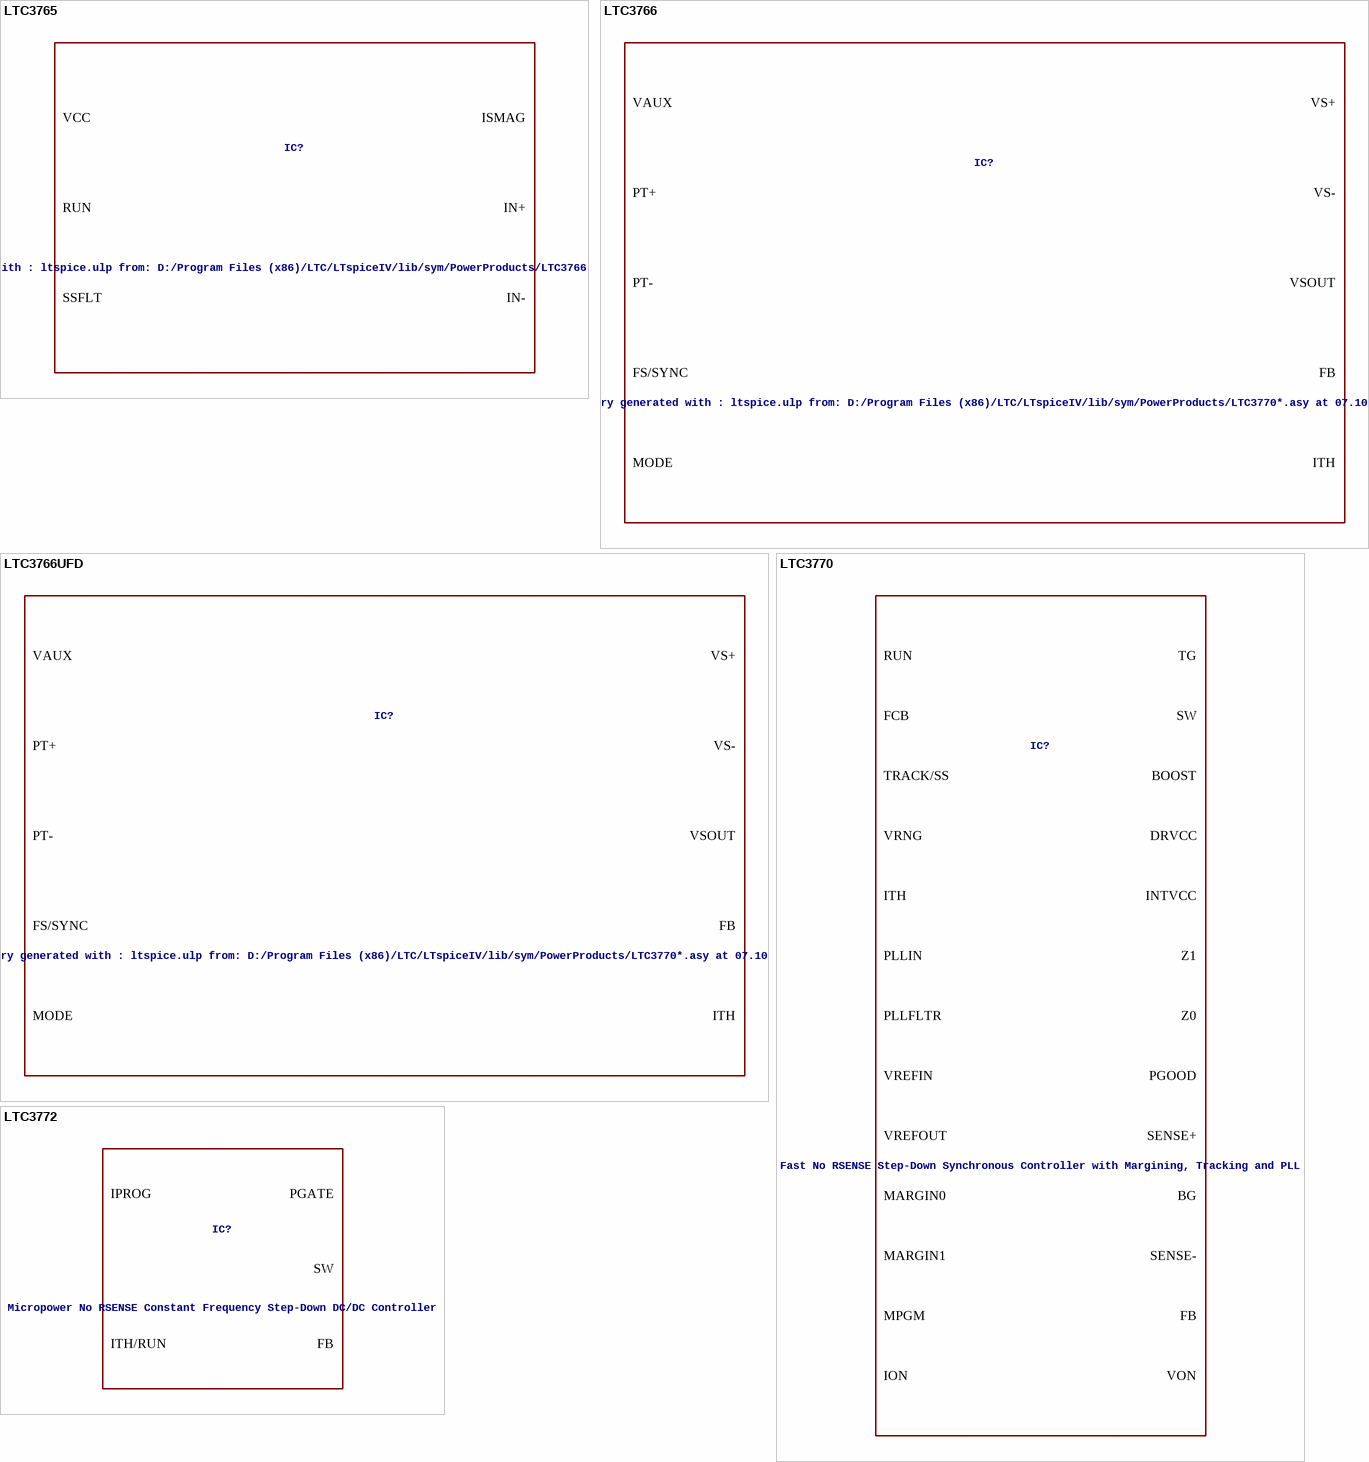
[diagram p76: symbols LTC3765 to LTC3772]

## LTC3765
designator IC?, comment LT-Spice library generated with : ltspice.ulp from: D:/Program Files (x86)/LTC/LTspiceIV/lib/sym/PowerProducts/LTC3766*.asy at 07.10.2012 18:32:35
VALUE2: LTC3765; SPICEMODEL: LTC3765.sub; SPICEPREFIX: X
footprint MSOP16(MSE)
pins: 1 PGND, 2 PG, 3 VCC, 4 AG, 5 ISMAG, 6 DELAY, 7 IS-, 8 IS+, 9 17 SGND, 10 FS/UV, 11 RCORE, 12 RUN, 13 SSFLT, 14 NDRV, 15 IN+, 16 IN-

## LTC3766
designator IC?, comment LT-Spice library generated with : ltspice.ulp from: D:/Program Files (x86)/LTC/LTspiceIV/lib/sym/PowerProducts/LTC3770*.asy at 07.10.2012 18:32:58
VALUE2: LTC3766; SPICEMODEL: LTC3766.sub; SPICEPREFIX: X
footprint SSOP28(GN)
pins: 1 SG, 2 FG, 3 VSEC, 4 MODE, 5 PHASE, 6 FB, 7 ITH, 8 RUN, 9 SS, 10 IPK, 11 VSOUT, 12 VS+, 13 VS-, 14 GND, 15 FS/SYNC, 16 REGSD, 17 IS-, 18 IS+, 19 SGD, 20 FGD, 21 NDRV, 22 VIN, 23 SW, 24 VAUX, 25 PT-, 26 PT+, 27 PGND, 28 VCC

## LTC3766UFD
designator IC?, comment LT-Spice library generated with : ltspice.ulp from: D:/Program Files (x86)/LTC/LTspiceIV/lib/sym/PowerProducts/LTC3770*.asy at 07.10.2012 18:32:58
VALUE2: LTC3766; SPICEMODEL: LTC3766.sub; SPICEPREFIX: X
footprint QFN28(UFD)
pins: 1 MODE, 2 PHASE, 3 FB, 4 ITH, 5 RUN, 6 SS, 7 IPK, 8 VSOUT, 9 VS+, 10 VS-, 11 29 GND, 12 FS/SYNC, 13 REGSD, 14 IS-, 15 IS+, 16 SGD, 17 FGD, 18 NDRV, 19 VIN, 20 SW, 21 VAUX, 22 PT-, 23 PT+, 24 PGND, 25 VCC, 26 SG, 27 FG, 28 VSEC

## LTC3770
designator IC?, comment Fast No RSENSE Step-Down Synchronous Controller with Margining, Tracking and PLL
VALUE2: LTC3770; SPICEMODEL: LTC3770.sub; SPICEPREFIX: X
footprint QFN32(UH)
pins: 1 VRNG, 2 FB, 3 ITH, 4 33 SGND, 5 MARGIN1, 6 MARGIN0, 7 ION, 8 VREFIN, 9 VREFOUT, 10 MPGM, 11 TRACK/SS, 12 PLLFLTR, 13 PLLIN, 14 VIN, 15 VINSNS, 16 19 INTVCC, 17 18 Z1, 20 DRVCC, 21 BG, 22 PGND, 23 SENSE-, 24 SENSE+, 25 SW, 26 TG, 27 BOOST, 28 Z0, 29 FCB, 30 RUN, 31 VON, 32 PGOOD

## LTC3772
designator IC?, comment Micropower No RSENSE Constant Frequency Step-Down DC/DC Controller
VALUE2: LTC3772; SPICEMODEL: LTC3772.sub; SPICEPREFIX: X
footprint DFN8(DDB)
pins: 1 9 GND, 2 FB, 3 ITH/RUN, 4 IPROG, 6 SW, 7 VIN, 8 PGATE

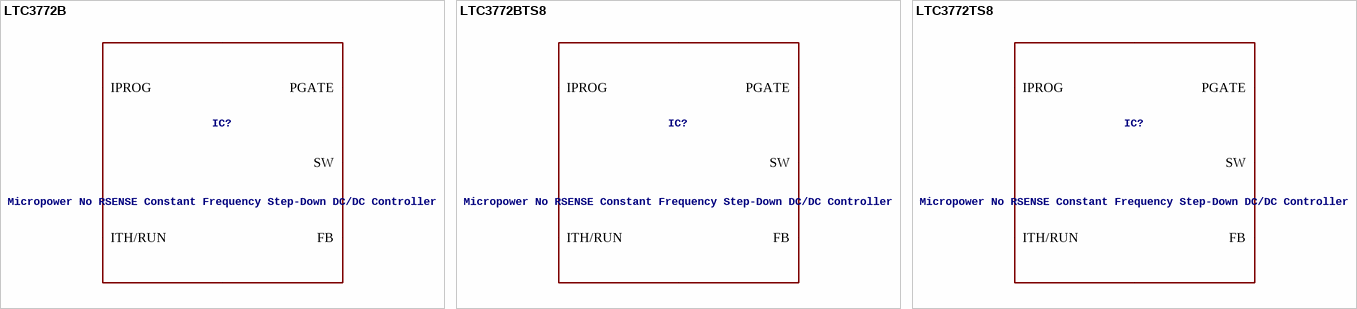
[diagram p77: symbols LTC3772B to LTC3772TS8]

## LTC3772B
designator IC?, comment Micropower No RSENSE Constant Frequency Step-Down DC/DC Controller
VALUE2: LTC3772B; SPICEMODEL: LTC3772B.sub; SPICEPREFIX: X
footprint DFN8(DDB)
pins: 1 9 GND, 2 FB, 3 ITH/RUN, 4 IPROG, 6 SW, 7 VIN, 8 PGATE

## LTC3772BTS8
designator IC?, comment Micropower No RSENSE Constant Frequency Step-Down DC/DC Controller
VALUE2: LTC3772B; SPICEMODEL: LTC3772B.sub; SPICEPREFIX: X
footprint SOT8(TS8)
pins: 1 IPROG, 2 ITH/RUN, 3 FB, 4 GND, 5 PGATE, 6 VIN, 7 SW

## LTC3772TS8
designator IC?, comment Micropower No RSENSE Constant Frequency Step-Down DC/DC Controller
VALUE2: LTC3772; SPICEMODEL: LTC3772.sub; SPICEPREFIX: X
footprint SOT8(TS8)
pins: 1 IPROG, 2 ITH/RUN, 3 FB, 4 GND, 5 PGATE, 6 VIN, 7 SW

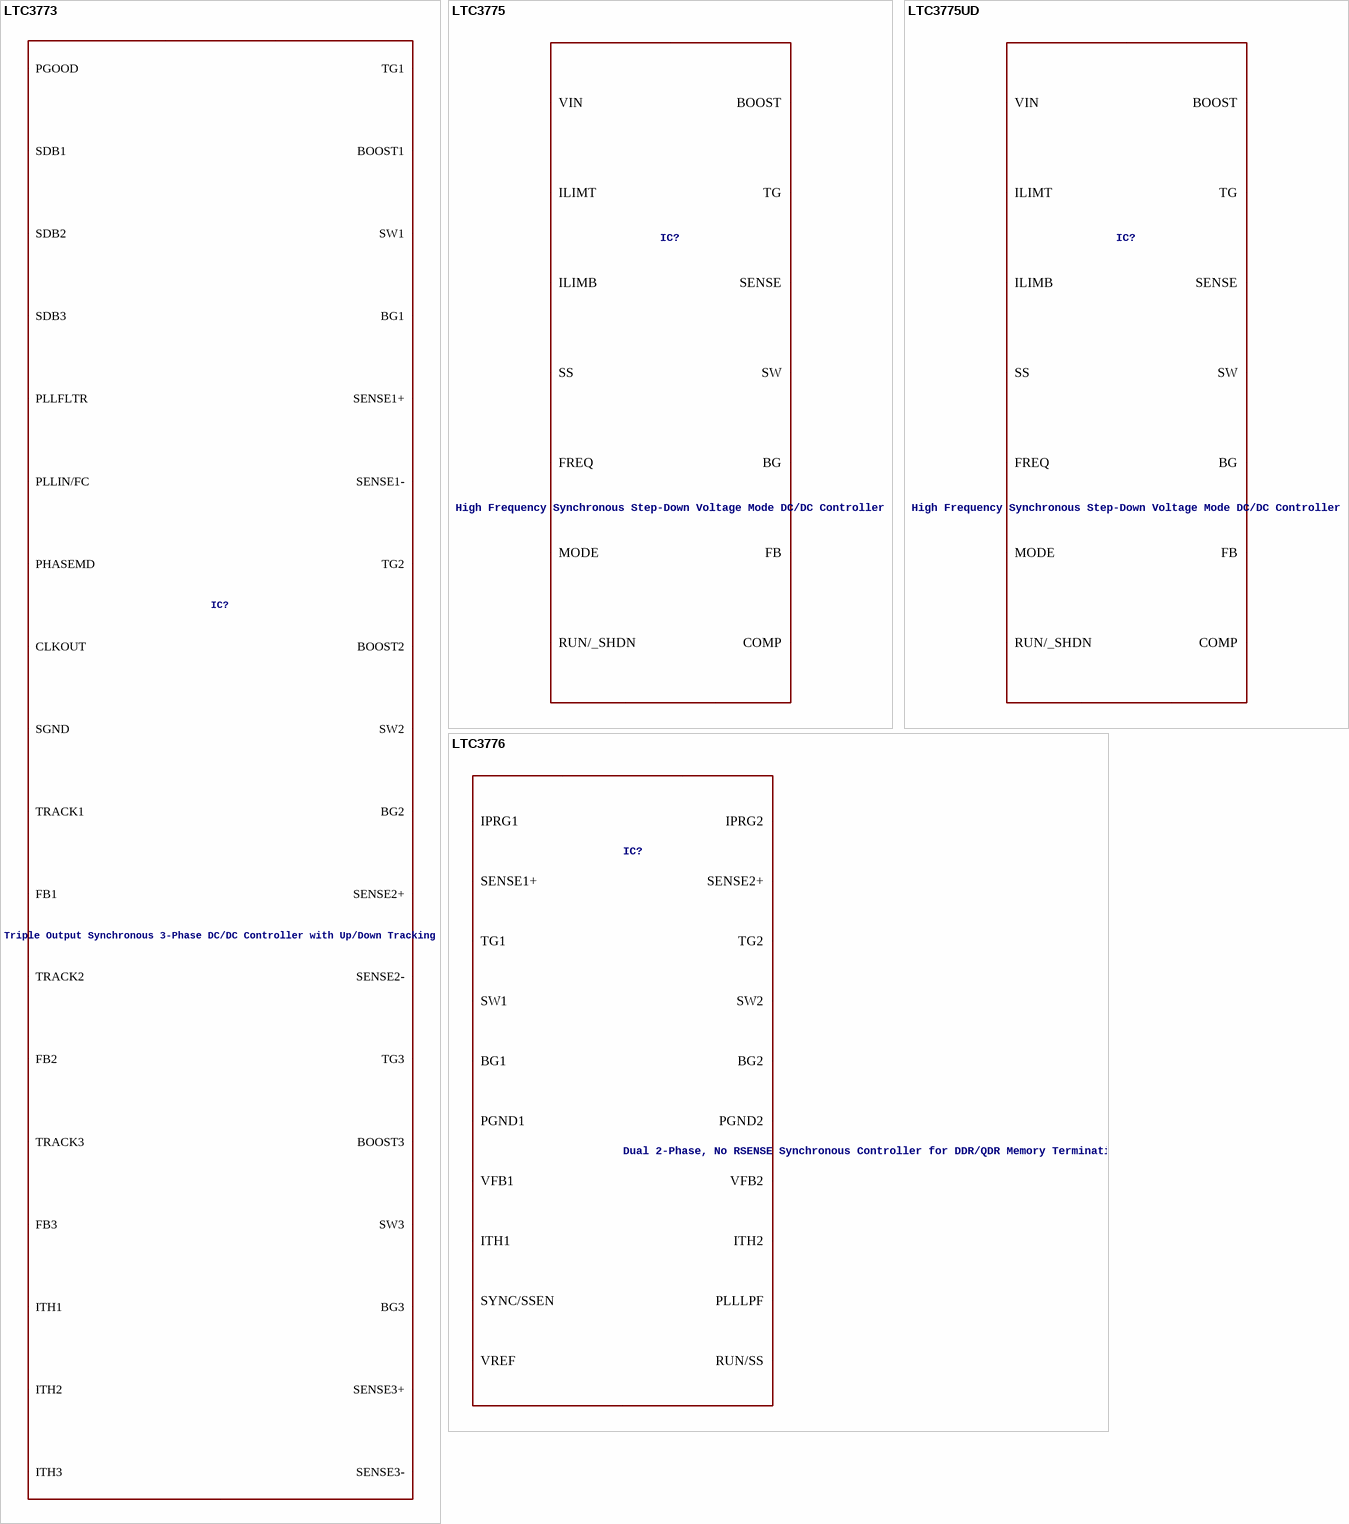
[diagram p78: symbols LTC3773 to LTC3776]

## LTC3773
designator IC?, comment Triple Output Synchronous 3-Phase DC/DC Controller with Up/Down Tracking
VALUE2: LTC3773; SPICEMODEL: LTC3773.sub; SPICEPREFIX: X
footprint QFN38(UHF)
pins: 1 TRACK1, 2 FB1, 3 ITH1, 4 SGND, 5 ITH2, 6 ITH3, 7 FB2, 8 FB3, 9 TRACK2, 10 TRACK3, 11 SENSE2-, 12 SENSE2+, 13 SENSE3-, 14 SENSE3+, 15 VCC, 16 PLLFLTR, 17 PLLIN/FC, 18 CLKOUT, 19 BG3, 20 VDR, 21 BG2, 22 BG1, 23 SW3, 24 TG3, 25 BOOST3, 26 BOOST2, 27 TG2, 28 SW2, 29 SW1, 30 TG1, 31 BOOST1, 32 PGOOD, 33 PHASEMD, 34 SENSE1+, 35 SENSE1-, 36 SDB1, 37 SDB2, 38 SDB3, 39 PGND

## LTC3775
designator IC?, comment High Frequency Synchronous Step-Down Voltage Mode DC/DC Controller
VALUE2: LTC3775; SPICEMODEL: LTC3775.sub; SPICEPREFIX: X
footprint MSOP16(MSE)
pins: 1 MODE, 2 RUN/_SHDN, 3 ILIMT, 4 ILIMB, 5 FB, 6 COMP, 7 SS, 8 FREQ, 9 SGND, 10 BG, 11 INTVCC, 12 SENSE, 13 VIN, 14 SW, 15 TG, 16 BOOST, 17 PGND

## LTC3775UD
designator IC?, comment High Frequency Synchronous Step-Down Voltage Mode DC/DC Controller
VALUE2: LTC3775; SPICEMODEL: LTC3775.sub; SPICEPREFIX: X
footprint QFN16(UD)
pins: 1 ILIMT, 2 ILIMB, 3 FB, 4 COMP, 5 SS, 6 FREQ, 7 SGND, 8 BG, 9 INTVCC, 10 SENSE, 11 VIN, 12 SW, 13 TG, 14 BOOST, 15 MODE, 16 RUN/_SHDN, 17 PGND

## LTC3776
designator IC?, comment Dual 2-Phase, No RSENSE Synchronous Controller for DDR/QDR Memory Termination
VALUE2: LTC3776; SPICEMODEL: LTC3776.sub; SPICEPREFIX: X
footprint SSOP24(GN)
pins: 1 SW1, 2 IPRG1, 3 VFB1, 4 ITH1, 5 IPRG2, 6 PLLLPF, 7 SGND, 8 VIN, 9 VREF, 10 VFB2, 11 ITH2, 12 PGOOD, 13 SW2, 14 SENSE2+, 15 19 PGND2, 16 BG2, 17 RUN/SS, 18 TG2, 20 TG1, 21 SYNC/SSEN, 22 BG1, 23 PGND1, 24 SENSE1+

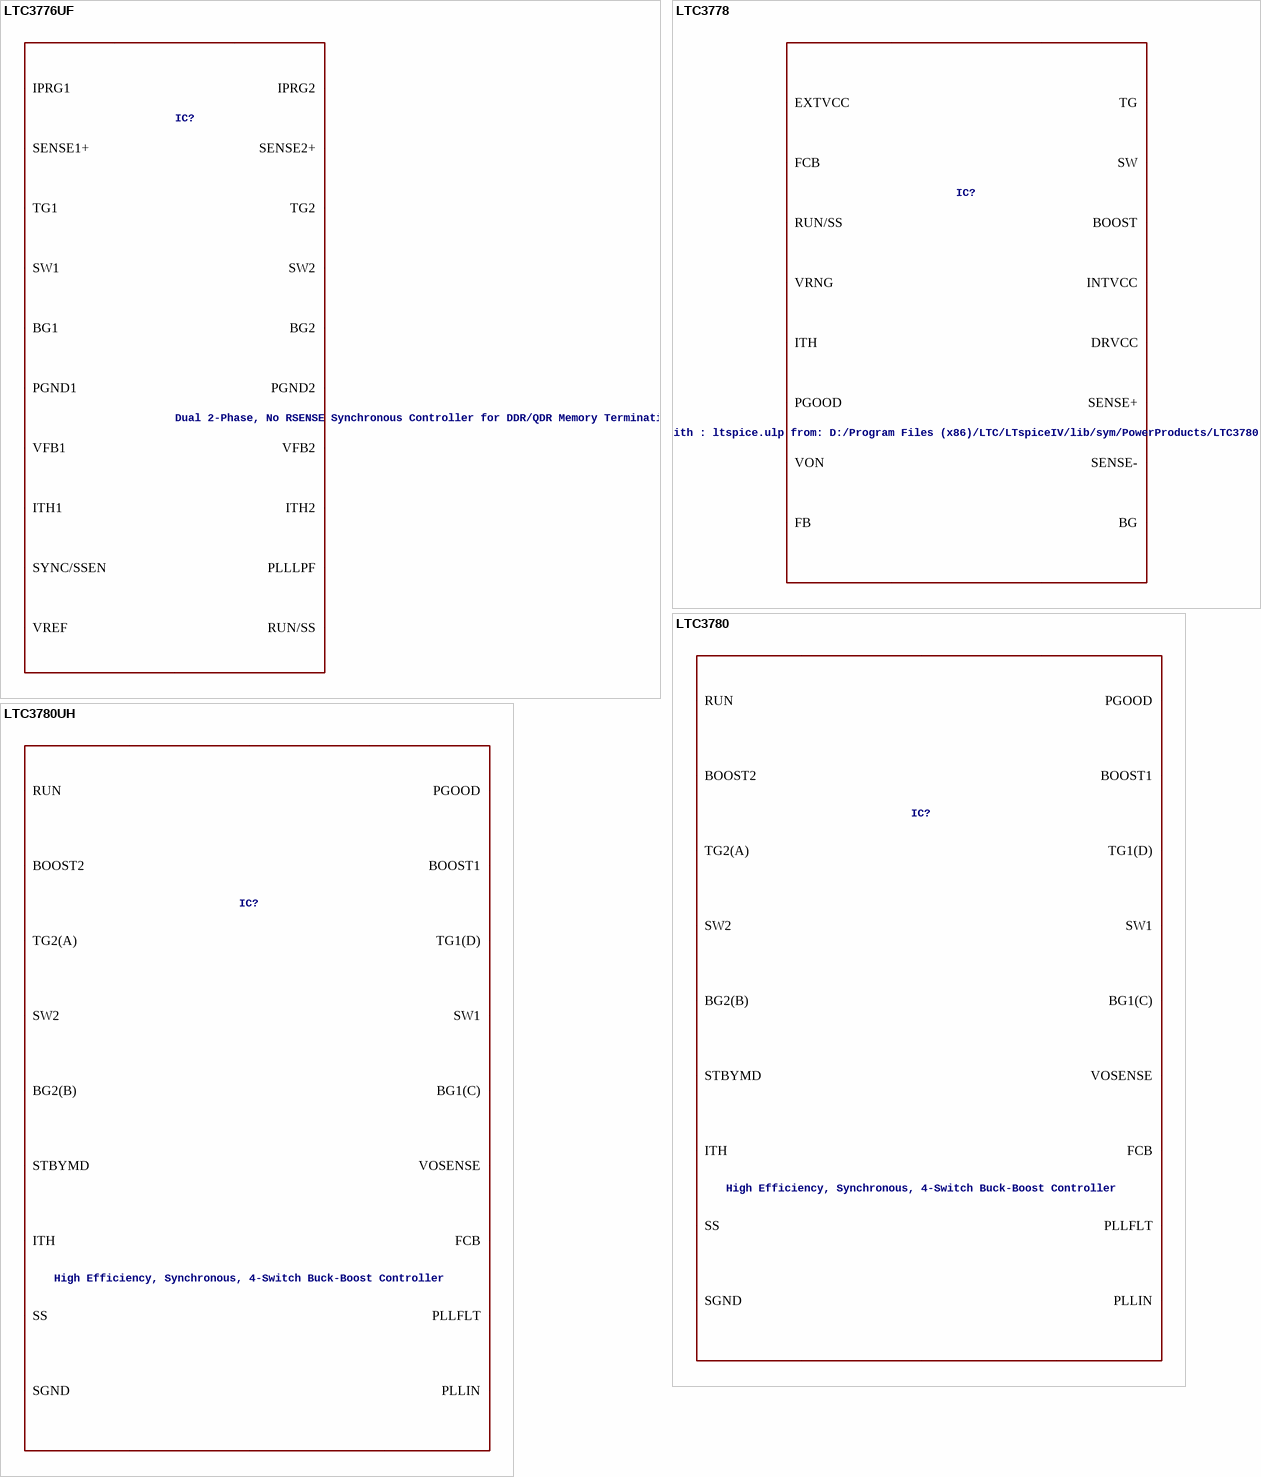
[diagram p79: symbols LTC3776UF to LTC3780UH]

## LTC3776UF
designator IC?, comment Dual 2-Phase, No RSENSE Synchronous Controller for DDR/QDR Memory Termination
VALUE2: LTC3776; SPICEMODEL: LTC3776.sub; SPICEPREFIX: X
footprint QFN24(UF)
pins: 1 ITH1, 2 IPRG2, 3 PLLLPF, 4 SGND, 5 VIN, 6 VREF, 7 VFB2, 8 ITH2, 9 PGOOD, 10 SW2, 11 SENSE2+, 12 16 PGND2, 13 BG2, 14 RUN/SS, 15 TG2, 17 TG1, 18 SYNC/SSEN, 19 BG1, 20 25 PGND1, 21 SENSE1+, 22 SW1, 23 IPRG1, 24 VFB1

## LTC3778
designator IC?, comment LT-Spice library generated with : ltspice.ulp from: D:/Program Files (x86)/LTC/LTspiceIV/lib/sym/PowerProducts/LTC3780*.asy at 07.10.2012 18:33:37
VALUE2: LTC3778; SPICEMODEL: LTC3778.sub; SPICEPREFIX: X
footprint TSSOP20(F)
pins: 1 RUN/SS, 2 VON, 3 PGOOD, 4 VRNG, 5 ITH, 6 FCB, 7 GND, 8 ION, 9 FB, 10 EXTVCC, 11 VIN, 12 INTVCC, 13 DRVCC, 14 BG, 15 PGND, 16 SENSE-, 17 SENSE+, 18 SW, 19 TG, 20 BOOST

## LTC3780
designator IC?, comment High Efficiency, Synchronous, 4-Switch Buck-Boost Controller
VALUE2: LTC3780; SPICEMODEL: LTC3780.sub; SPICEPREFIX: X
footprint SSOP24(G)
pins: 1 PGOOD, 2 SS, 3 SENSE+, 4 SENSE-, 5 ITH, 6 VOSENSE, 7 SGND, 8 RUN, 9 FCB, 10 PLLFLT, 11 PLLIN, 12 STBYMD, 13 BOOST2, 14 TG2(A), 15 SW2, 16 BG2(B), 17 PGND, 18 BG1(C), 19 INTVCC, 20 EXTVCC, 21 VIN, 22 SW1, 23 TG1(D), 24 BOOST1

## LTC3780UH
designator IC?, comment High Efficiency, Synchronous, 4-Switch Buck-Boost Controller
VALUE2: LTC3780; SPICEMODEL: LTC3780.sub; SPICEPREFIX: X
footprint QFN32(UH)
pins: 1 SENSE+, 2 SENSE-, 3 ITH, 4 VOSENSE, 5 33 SGND, 6 RUN, 7 FCB, 8 PLLFLT, 10 PLLIN, 11 STBYMD, 14 BOOST2, 15 TG2(A), 17 SW2, 18 BG2(B), 19 PGND, 20 BG1(C), 21 INTVCC, 22 EXTVCC, 23 VIN, 24 SW1, 26 TG1(D), 27 BOOST1, 30 PGOOD, 31 SS

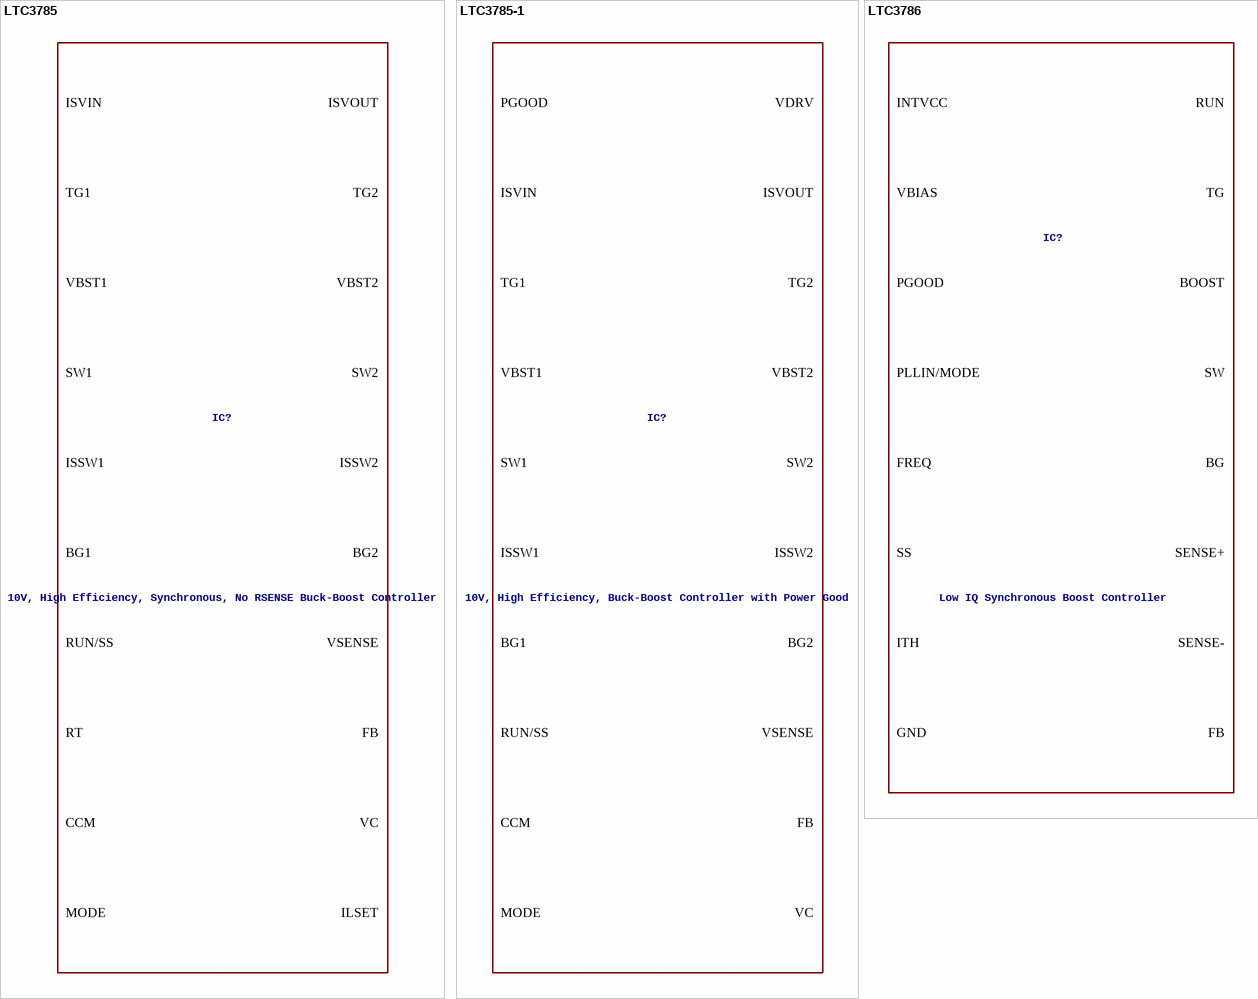
[diagram p80: symbols LTC3785 to LTC3786]

## LTC3785
designator IC?, comment 10V, High Efficiency, Synchronous, No RSENSE Buck-Boost Controller
VALUE2: LTC3785; SPICEMODEL: LTC3785.sub; SPICEPREFIX: X
footprint QFN24(UF)
pins: 1 RUN/SS, 2 VC, 3 FB, 4 VSENSE, 5 ILSET, 6 CCM, 7 RT, 8 MODE, 10 ISVOUT, 11 VBST2, 12 TG2, 13 SW2, 14 ISSW2, 15 BG2, 16 VDRV, 17 BG1, 18 ISSW1, 19 SW1, 20 TG1, 21 VBST1, 22 ISVIN, 23 VCC, 24 VIN, 25 GND

## LTC3785-1
designator IC?, comment 10V, High Efficiency, Buck-Boost Controller with Power Good
VALUE2: LTC3785-1; SPICEMODEL: LTC3785-1.sub; SPICEPREFIX: X
footprint QFN24(UF)
pins: 1 RUN/SS, 2 VC, 3 FB, 4 VSENSE, 5 ILSET, 6 CCM, 7 RT, 8 MODE, 9 PGOOD, 10 ISVOUT, 11 VBST2, 12 TG2, 13 SW2, 14 ISSW2, 15 BG2, 16 VDRV, 17 BG1, 18 ISSW1, 19 SW1, 20 TG1, 21 VBST1, 22 ISVIN, 23 VCC, 24 VIN, 25 GND

## LTC3786
designator IC?, comment Low IQ Synchronous Boost Controller
VALUE2: LTC3786; SPICEMODEL: LTC3786.sub; SPICEPREFIX: X
footprint MSOP16(MSE)
pins: 1 FB, 2 SENSE+, 3 SENSE-, 4 ITH, 5 SS, 6 PLLIN/MODE, 7 FREQ, 8 RUN, 9 17 GND, 10 BG, 11 INTVCC, 12 VBIAS, 13 BOOST, 14 TG, 15 SW, 16 PGOOD

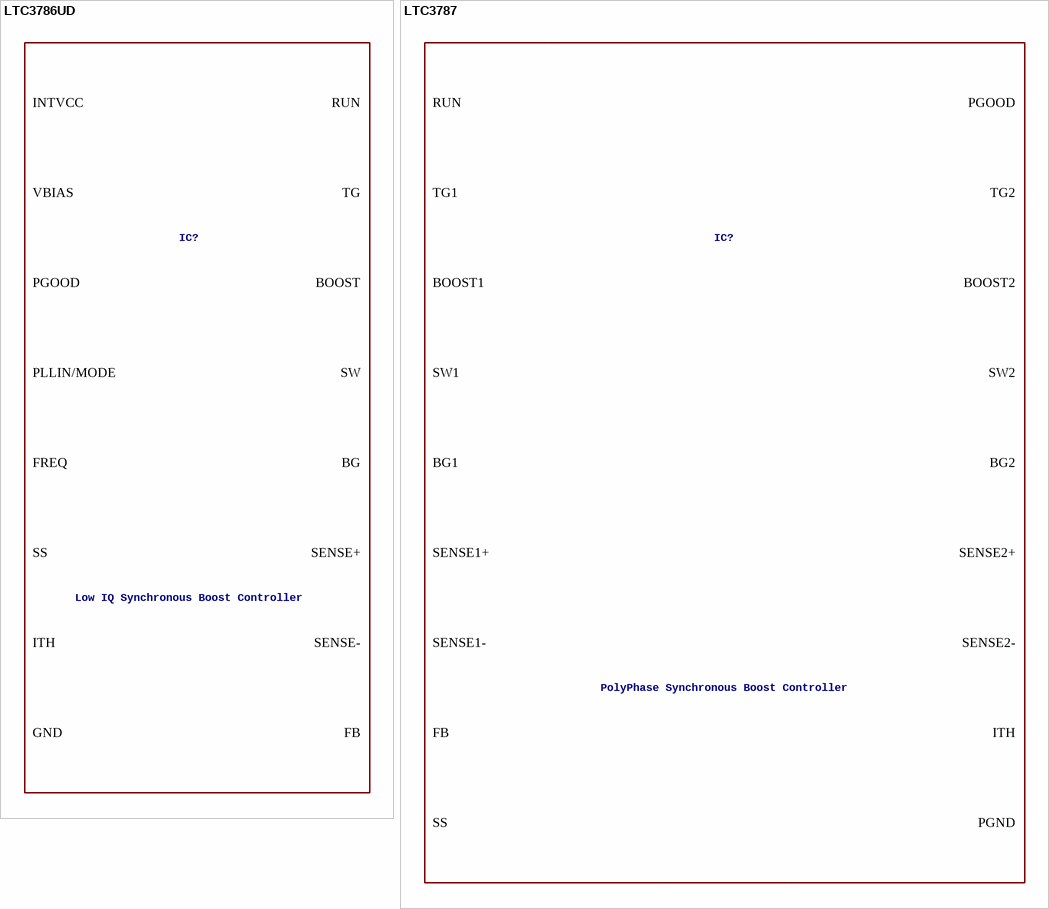
[diagram p81: symbols LTC3786UD to LTC3787]

## LTC3786UD
designator IC?, comment Low IQ Synchronous Boost Controller
VALUE2: LTC3786; SPICEMODEL: LTC3786.sub; SPICEPREFIX: X
footprint QFN16(UD)
pins: 1 SW, 2 PGOOD, 3 FB, 4 SENSE+, 5 SENSE-, 6 ITH, 7 SS, 8 PLLIN/MODE, 9 FREQ, 10 RUN, 11 17 GND, 12 BG, 13 INTVCC, 14 VBIAS, 15 BOOST, 16 TG

## LTC3787
designator IC?, comment PolyPhase Synchronous Boost Controller
VALUE2: LTC3787; SPICEMODEL: LTC3787.sub; SPICEPREFIX: X
footprint SSOP28(GN)
pins: 1 ILIM, 2 SENSE1+, 3 SENSE1-, 4 FREQ, 5 PHASEMD, 6 CLKOUT, 7 PLLIN/MODE, 8 SGND, 9 RUN, 10 SS, 11 SENSE2-, 12 SENSE2+, 13 FB, 14 ITH, 16 SW2, 17 TG2, 18 BOOST2, 19 BG2, 20 INTVCC, 21 EXTVCC, 22 PGND, 23 VBIAS, 24 BG1, 25 BOOST1, 26 TG1, 27 SW1, 28 PGOOD

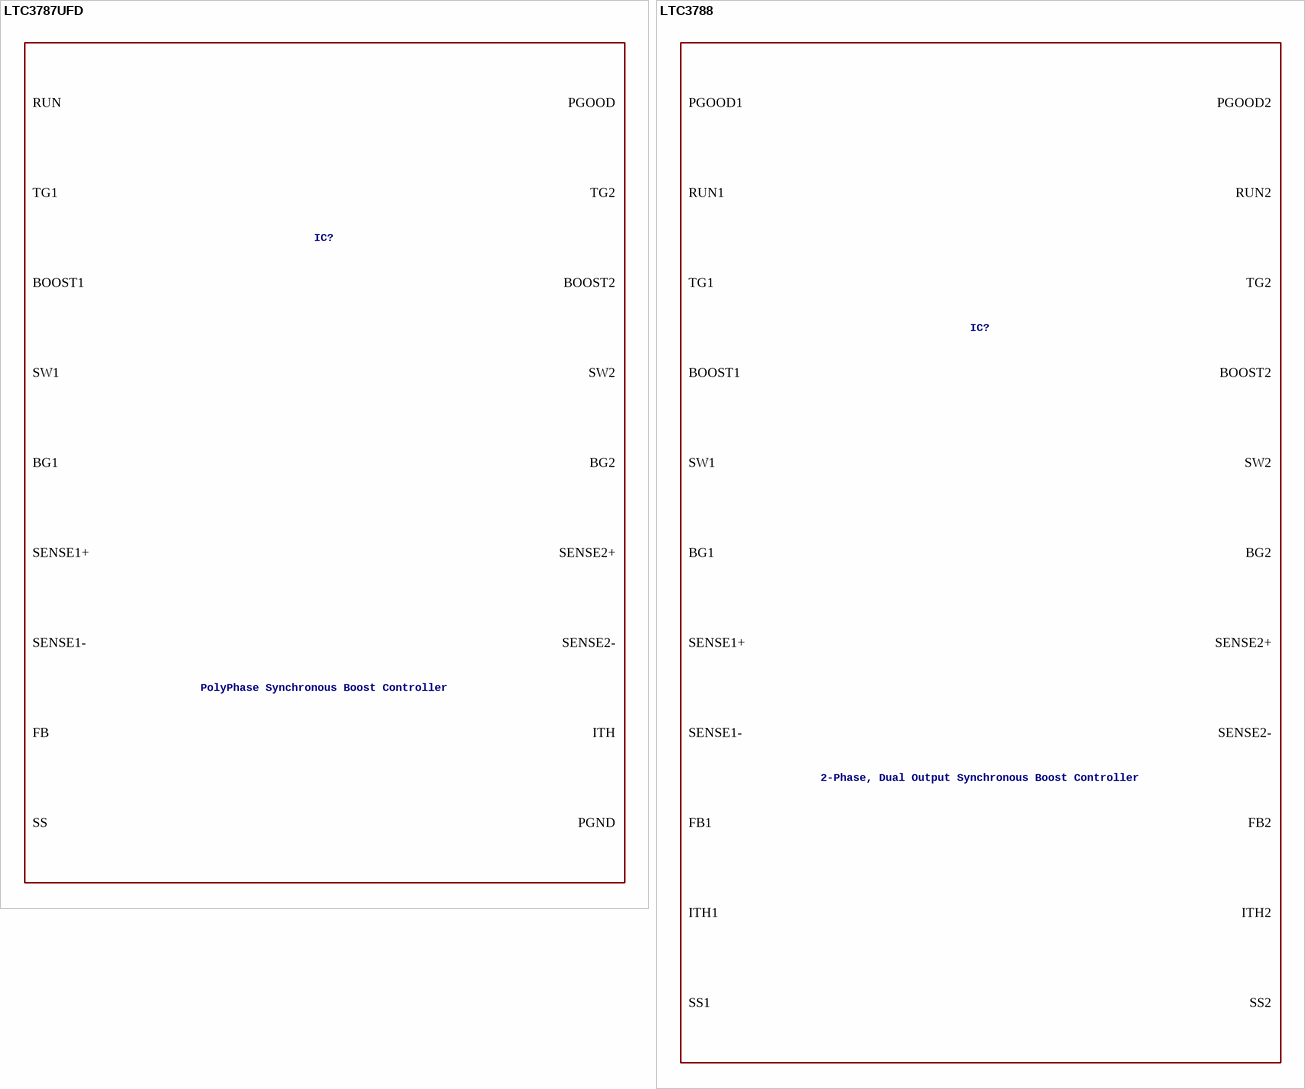
[diagram p82: symbols LTC3787UFD to LTC3788]

## LTC3787UFD
designator IC?, comment PolyPhase Synchronous Boost Controller
VALUE2: LTC3787; SPICEMODEL: LTC3787.sub; SPICEPREFIX: X
footprint QFN28(UFD)
pins: 1 FREQ, 2 PHASEMD, 3 CLKOUT, 4 PLLIN/MODE, 5 29 SGND, 6 RUN, 7 SS, 8 SENSE2-, 9 SENSE2+, 10 FB, 11 ITH, 13 SW2, 14 TG2, 15 BOOST2, 16 BG2, 17 INTVCC, 18 EXTVCC, 19 PGND, 20 VBIAS, 21 BG1, 22 BOOST1, 23 TG1, 24 SW1, 25 PGOOD, 26 ILIM, 27 SENSE1+, 28 SENSE1-

## LTC3788
designator IC?, comment 2-Phase, Dual Output Synchronous Boost Controller
VALUE2: LTC3788; SPICEMODEL: LTC3788.sub; SPICEPREFIX: X
footprint QFN32(UH)
pins: 1 SENSE1-, 2 FREQ, 3 PHASEMD, 4 CLKOUT, 5 PLLIN/MODE, 6 33 SGND, 7 RUN1, 8 RUN2, 9 SENSE2-, 10 SENSE2+, 11 FB2, 12 ITH2, 13 SS2, 14 PGOOD2, 15 SW2, 16 TG2, 17 BOOST2, 18 BG2, 19 INTVCC, 20 EXTVCC, 21 PGND, 22 VBIAS, 23 BG1, 24 BOOST1, 25 TG1, 26 SW1, 27 PGOOD1, 28 ILIM, 29 SS1, 30 ITH1, 31 FB1, 32 SENSE1+

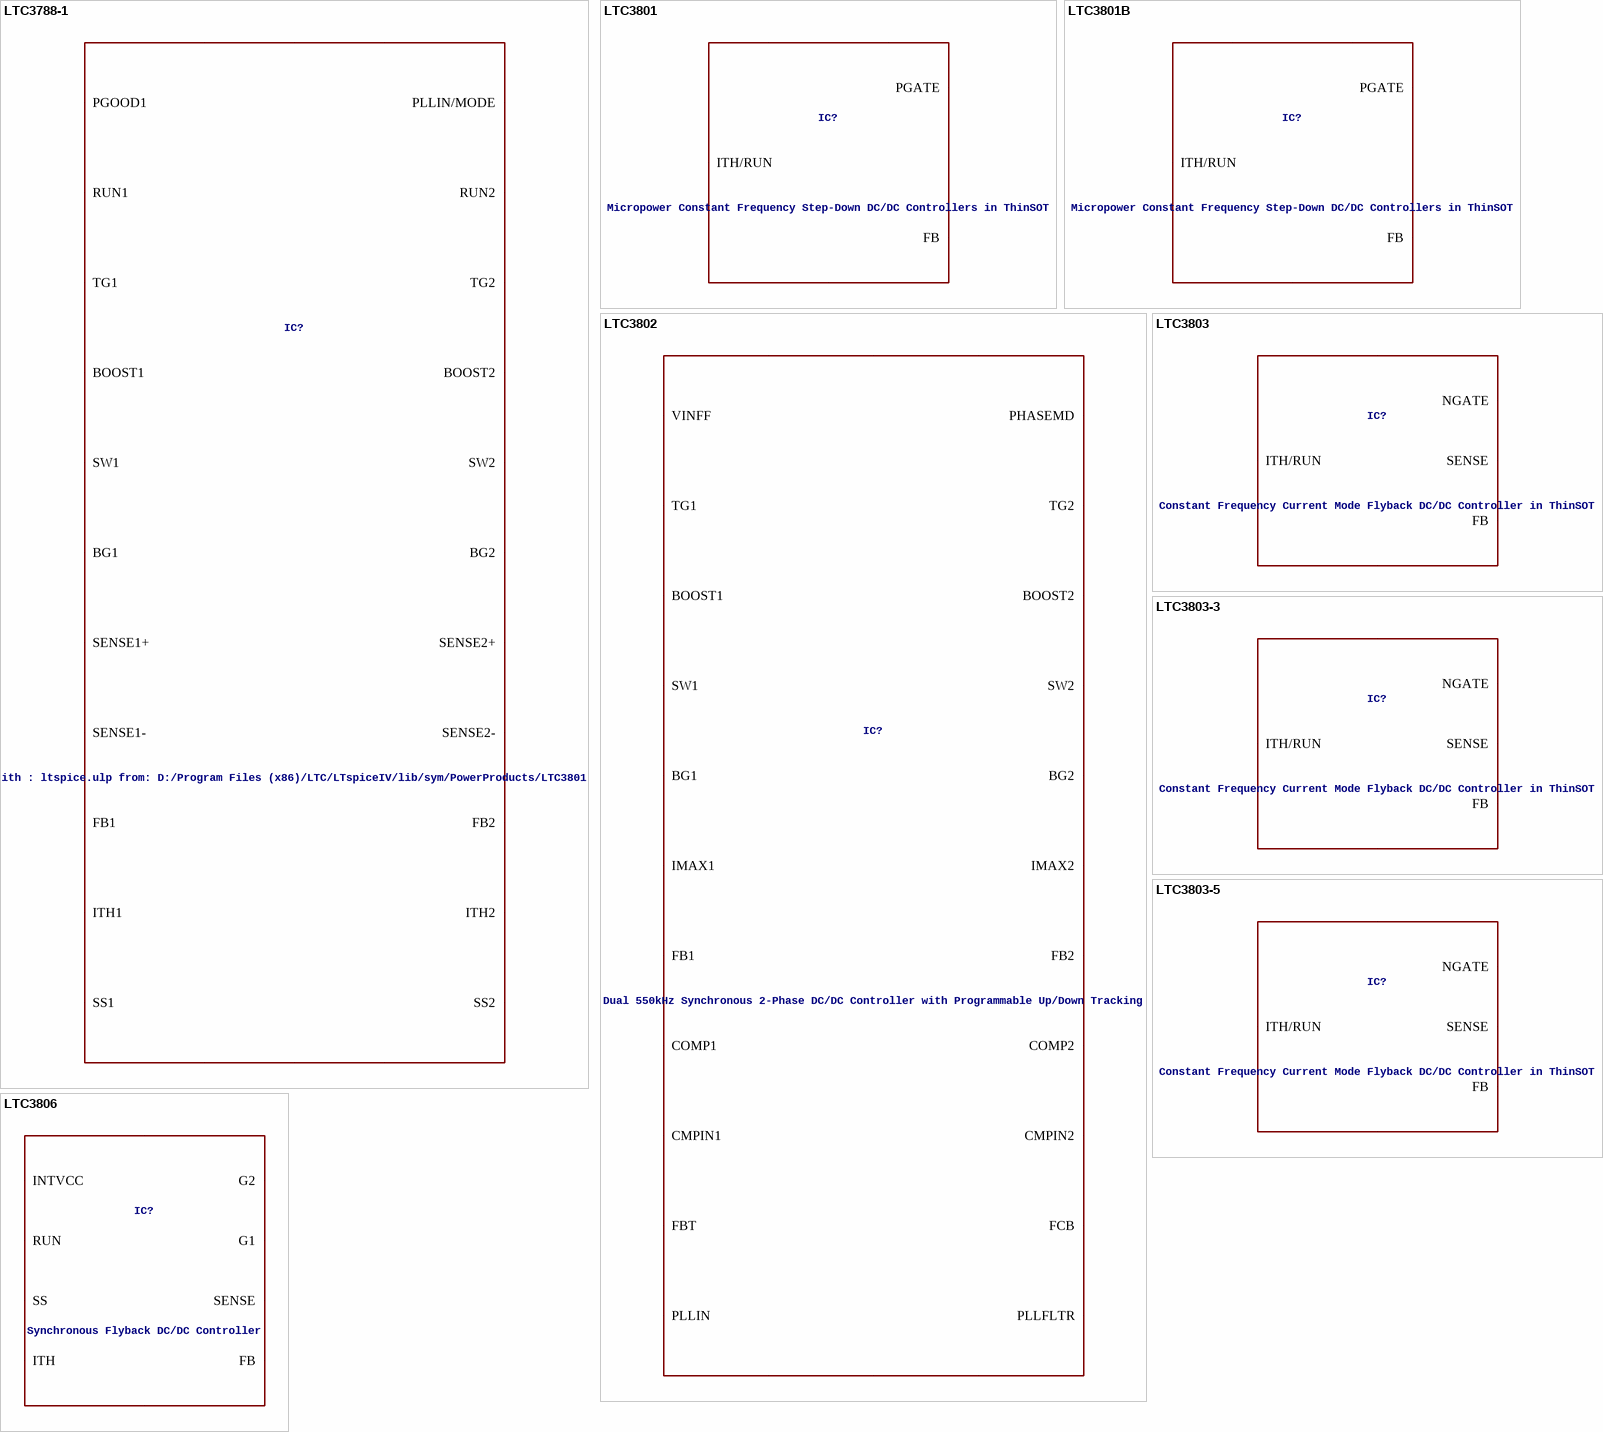
[diagram p83: symbols LTC3788-1 to LTC3806]

## LTC3788-1
designator IC?, comment LT-Spice library generated with : ltspice.ulp from: D:/Program Files (x86)/LTC/LTspiceIV/lib/sym/PowerProducts/LTC3801*.asy at 07.10.2012 18:34:17
VALUE2: LTC3788-1; SPICEMODEL: LTC3788-1.sub; SPICEPREFIX: X
footprint SSOP28(GN)
pins: 1 ITH1, 2 FB1, 3 SENSE1+, 4 SENSE1-, 5 FREQ, 6 PLLIN/MODE, 7 SGND, 8 RUN1, 9 RUN2, 10 SENSE2-, 11 SENSE2+, 12 FB2, 13 ITH2, 14 SS2, 15 SW2, 16 TG2, 17 BOOST2, 18 BG2, 19 INTVCC, 20 EXTVCC, 21 PGND, 22 VBIAS, 23 BG1, 24 BOOST1, 25 TG1, 26 SW1, 27 PGOOD1, 28 SS1

## LTC3801
designator IC?, comment Micropower Constant Frequency Step-Down DC/DC Controllers in ThinSOT
VALUE2: LTC3801; SPICEMODEL: LTC3801.sub; SPICEPREFIX: X
footprint SOT6(S6)
pins: 1 ITH/RUN, 2 GND, 3 FB, 4 SENSE-, 5 VIN, 6 PGATE

## LTC3801B
designator IC?, comment Micropower Constant Frequency Step-Down DC/DC Controllers in ThinSOT
VALUE2: LTC3801B; SPICEMODEL: LTC3801B.sub; SPICEPREFIX: X
footprint SOT6(S6)
pins: 1 ITH/RUN, 2 GND, 3 FB, 4 SENSE-, 5 VIN, 6 PGATE

## LTC3802
designator IC?, comment Dual 550kHz Synchronous 2-Phase DC/DC Controller with Programmable Up/Down Tracking
VALUE2: LTC3802; SPICEMODEL: LTC3802.sub; SPICEPREFIX: X
footprint SSOP28(GN)
pins: 1 PVCC, 2 BG1, 3 BOOST1, 4 TG1, 5 SW1, 6 PGND, 7 IMAX1, 8 FBT, 9 CMPIN1, 10 COMP1, 11 FB1, 12 SGND, 13 FCB, 14 RUN/SS, 15 PGOOD, 16 VINFF, 17 PHASEMD, 18 FB2, 19 COMP2, 20 VCC, 21 CMPIN2, 22 IMAX2, 23 PLLFLTR, 24 PLLIN, 25 SW2, 26 TG2, 27 BOOST2, 28 BG2

## LTC3803
designator IC?, comment Constant Frequency Current Mode Flyback DC/DC Controller in ThinSOT
VALUE2: LTC3803; SPICEMODEL: LTC3803.sub; SPICEPREFIX: X
footprint SOT6(S6)
pins: 1 ITH/RUN, 2 GND, 3 FB, 4 SENSE, 5 VCC, 6 NGATE

## LTC3803-3
designator IC?, comment Constant Frequency Current Mode Flyback DC/DC Controller in ThinSOT
VALUE2: LTC3803-3; SPICEMODEL: LTC3803-3.sub; SPICEPREFIX: X
footprint SOT6(S6)
pins: 1 ITH/RUN, 2 GND, 3 FB, 4 SENSE, 5 VCC, 6 NGATE

## LTC3803-5
designator IC?, comment Constant Frequency Current Mode Flyback DC/DC Controller in ThinSOT
VALUE2: LTC3803-5; SPICEMODEL: LTC3803-5.sub; SPICEPREFIX: X
footprint SOT6(S6)
pins: 1 ITH/RUN, 2 GND, 3 FB, 4 SENSE, 5 VCC, 6 NGATE

## LTC3806
designator IC?, comment Synchronous Flyback DC/DC Controller
VALUE2: LTC3806; SPICEMODEL: LTC3806.sub; SPICEPREFIX: X
footprint DFN12(DE)
pins: 1 RUN, 2 ITH, 3 FB, 5 VIN, 6 INTVCC, 7 13 GND, 8 G2, 9 G1, 10 SS, 12 SENSE

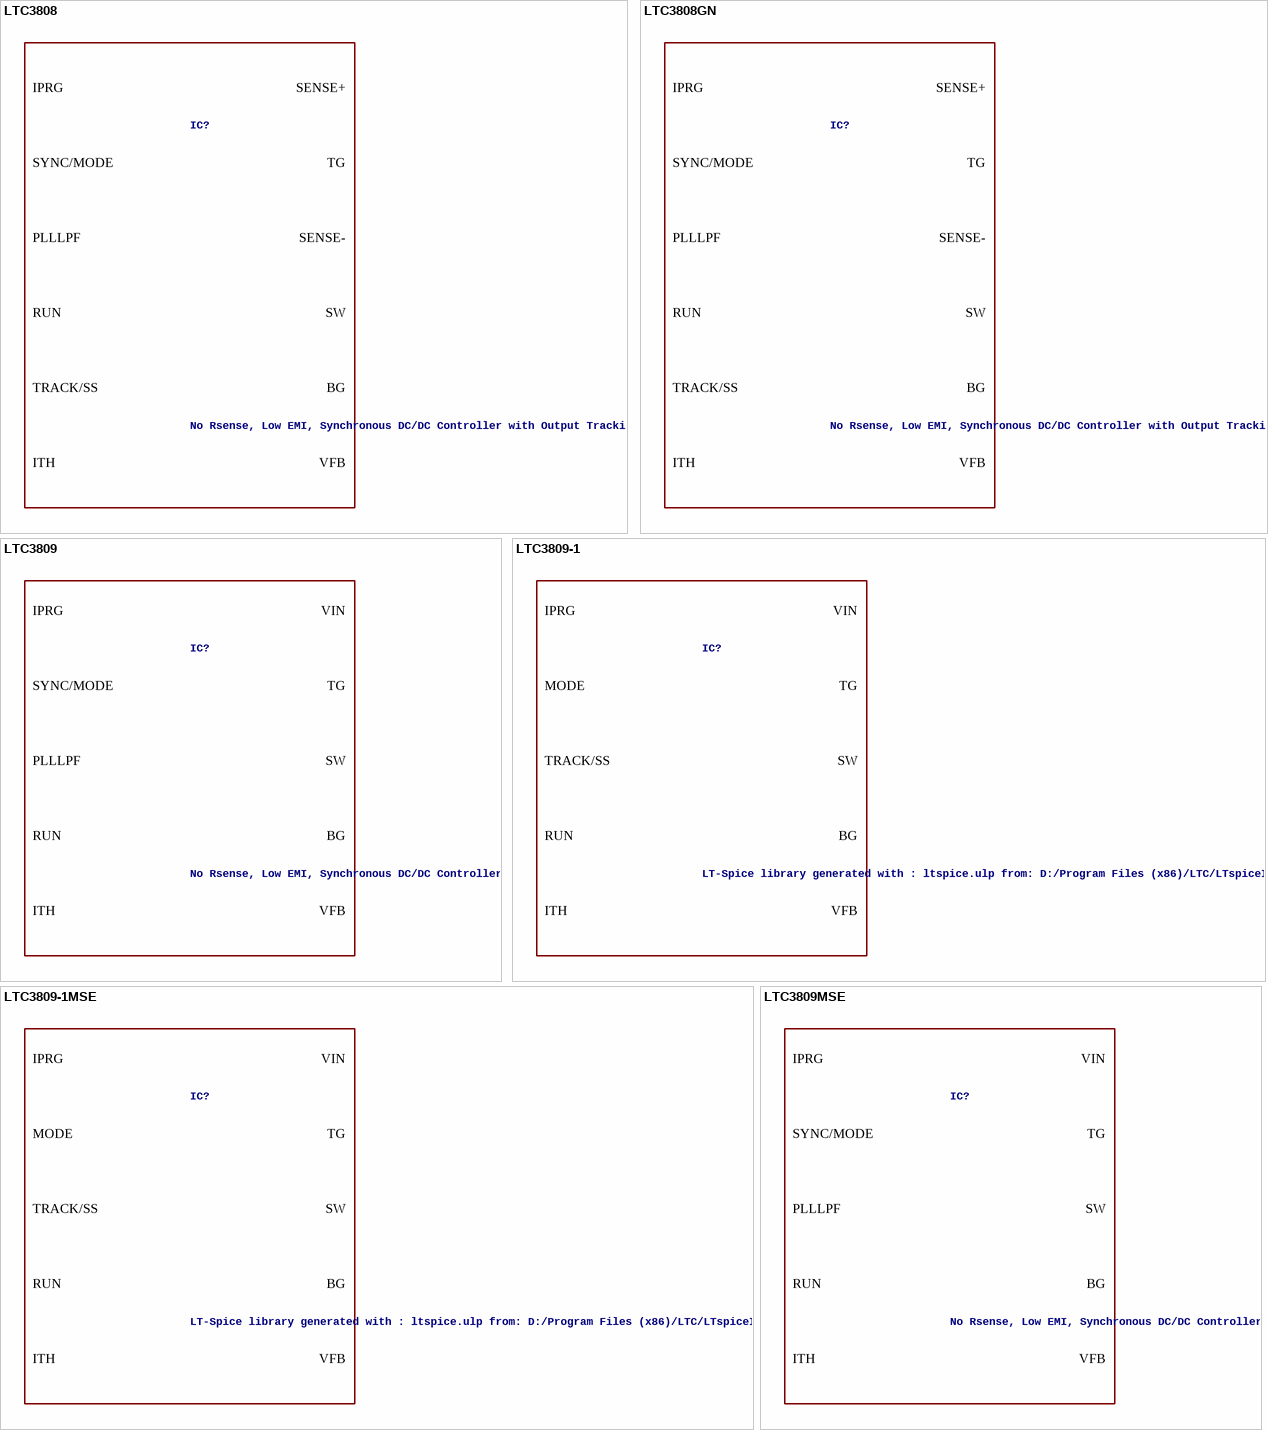
[diagram p84: symbols LTC3808 to LTC3809MSE]

## LTC3808
designator IC?, comment No Rsense, Low EMI, Synchronous DC/DC Controller with Output Tracking
VALUE2: LTC3808; SPICEMODEL: LTC3808.sub; SPICEPREFIX: X
footprint DFN14(DE)
pins: 1 PLLLPF, 2 SYNC/MODE, 3 TRACK/SS, 4 PGOOD, 5 VFB, 6 ITH, 7 RUN, 8 IPRG, 9 BG, 10 TG, 11 SENSE+, 12 VIN, 13 SENSE-, 14 SW, 15 GND

## LTC3808GN
designator IC?, comment No Rsense, Low EMI, Synchronous DC/DC Controller with Output Tracking
VALUE2: LTC3808; SPICEMODEL: LTC3808.sub; SPICEPREFIX: X
footprint SSOP16(GN)
pins: 1 9 GND, 2 PLLLPF, 3 SYNC/MODE, 4 TRACK/SS, 5 PGOOD, 6 VFB, 7 ITH, 8 RUN, 10 IPRG, 11 BG, 12 TG, 13 SENSE+, 14 VIN, 15 SENSE-, 16 SW

## LTC3809
designator IC?, comment No Rsense, Low EMI, Synchronous DC/DC Controller
VALUE2: LTC3809; SPICEMODEL: LTC3809.sub; SPICEPREFIX: X
footprint DFN10(DD)
pins: 1 PLLLPF, 2 SYNC/MODE, 3 VFB, 4 ITH, 5 RUN, 6 IPRG, 7 BG, 8 TG, 9 VIN, 10 SW, 11 GND

## LTC3809-1
designator IC?, comment LT-Spice library generated with : ltspice.ulp from: D:/Program Files (x86)/LTC/LTspiceIV/lib/sym/PowerProducts/LTC3810-5*.asy at 07.10.2012 18:34:48
VALUE2: LTC3809-1; SPICEMODEL: LTC3809-1.sub; SPICEPREFIX: X
footprint DFN10(DD)
pins: 1 MODE, 2 TRACK/SS, 3 VFB, 4 ITH, 5 RUN, 6 IPRG, 7 BG, 8 TG, 9 VIN, 10 SW, 11 GND

## LTC3809-1MSE
designator IC?, comment LT-Spice library generated with : ltspice.ulp from: D:/Program Files (x86)/LTC/LTspiceIV/lib/sym/PowerProducts/LTC3810-5*.asy at 07.10.2012 18:34:48
VALUE2: LTC3809-1; SPICEMODEL: LTC3809-1.sub; SPICEPREFIX: X
footprint MSOP10(MSE)
pins: 1 MODE, 2 TRACK/SS, 3 VFB, 4 ITH, 5 RUN, 6 IPRG, 7 BG, 8 TG, 9 VIN, 10 SW, 11 GND

## LTC3809MSE
designator IC?, comment No Rsense, Low EMI, Synchronous DC/DC Controller
VALUE2: LTC3809; SPICEMODEL: LTC3809.sub; SPICEPREFIX: X
footprint MSOP10(MSE)
pins: 1 PLLLPF, 2 SYNC/MODE, 3 VFB, 4 ITH, 5 RUN, 6 IPRG, 7 BG, 8 TG, 9 VIN, 10 SW, 11 GND

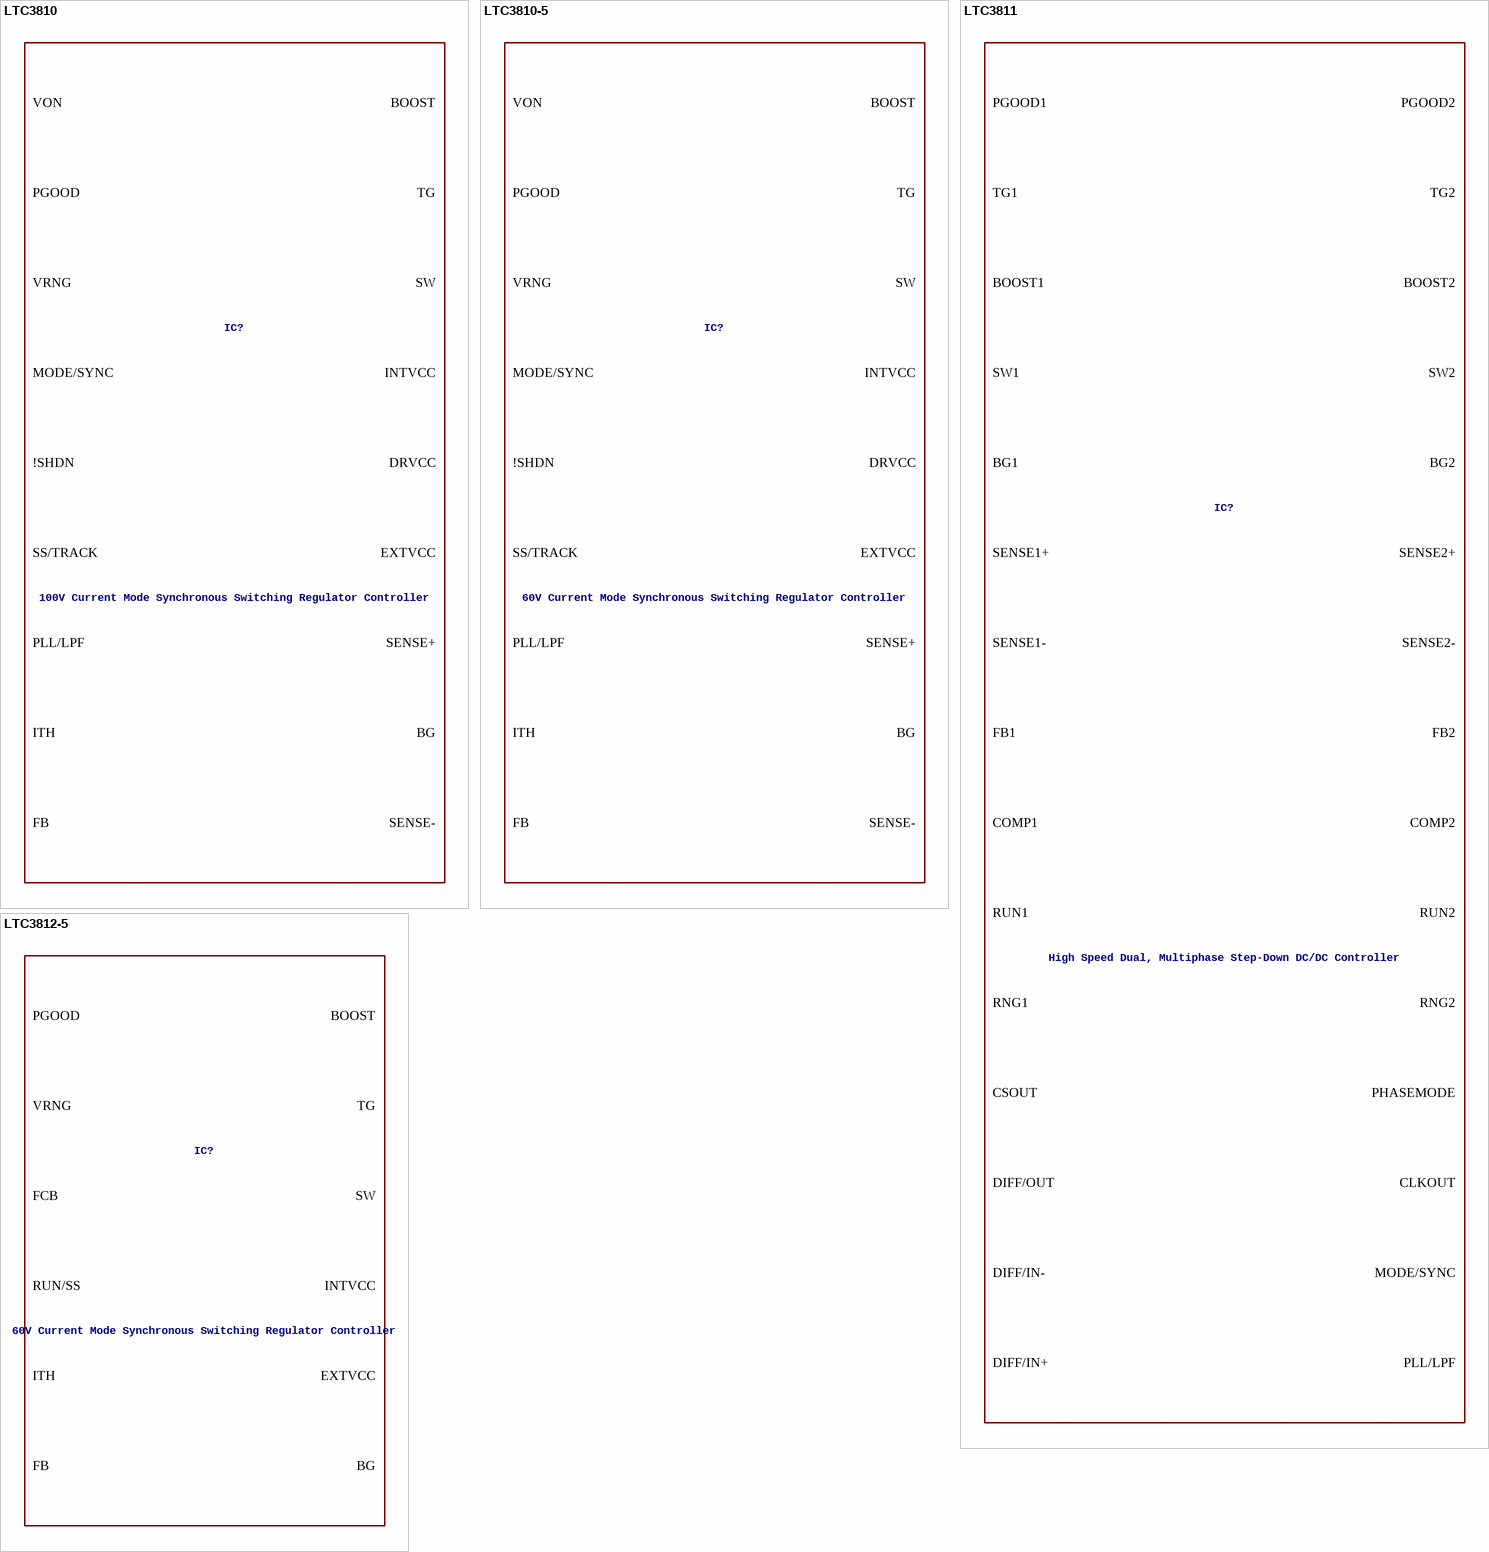
[diagram p85: symbols LTC3810 to LTC3812-5]

## LTC3810
designator IC?, comment 100V Current Mode Synchronous Switching Regulator Controller
VALUE2: LTC3810; SPICEMODEL: LTC3810.sub; SPICEPREFIX: X
footprint SSOP28(G)
pins: 1 ION, 4 VON, 5 VRNG, 6 PGOOD, 7 MODE/SYNC, 8 ITH, 9 FB, 10 PLL/LPF, 11 SS/TRACK, 12 SGND, 13 !SHDN, 14 UVIN, 15 NDRV, 16 EXTVCC, 17 INTVCC, 18 DRVCC, 19 BG, 20 BGRTN, 21 SENSE-, 25 SENSE+, 26 SW, 27 TG, 28 BOOST

## LTC3810-5
designator IC?, comment 60V Current Mode Synchronous Switching Regulator Controller
VALUE2: LTC3810-5; SPICEMODEL: LTC3810-5.sub; SPICEPREFIX: X
footprint QFN32(UH)
pins: 2 VON, 3 VRNG, 4 PGOOD, 5 MODE/SYNC, 6 ITH, 7 FB, 8 PLL/LPF, 9 SS/TRACK, 12 !SHDN, 13 UVIN, 14 NDRV, 15 EXTVCC, 16 INTVCC, 17 DRVCC, 18 BG, 19 BGRTN, 20 SENSE-, 24 SENSE+, 25 SW, 26 TG, 27 BOOST, 31 ION, 33 SGND

## LTC3811
designator IC?, comment High Speed Dual, Multiphase Step-Down DC/DC Controller
VALUE2: LTC3811; SPICEMODEL: LTC3811.sub; SPICEPREFIX: X
footprint QFN38(UHF)
pins: 1 SENSE1+, 2 SENSE1-, 3 SS/TRACK1, 4 COMP1, 5 FB1, 6 SGND, 7 INTVCC, 8 FB2, 9 COMP2, 10 SS/TRACK2, 11 SENSE2-, 12 SENSE2+, 13 CSOUT, 14 DIFF/OUT, 15 DIFF/IN-, 16 DIFF/IN+, 17 RNG1, 18 RNG2, 19 PHASEMODE, 20 BOOST2, 21 TG2, 22 SW2, 23 BG2, 24 VIN, 25 DRVCC, 26 39 PGND, 27 EXTVCC, 28 BG1, 29 SW1, 30 TG1, 31 BOOST1, 32 CLKOUT, 33 MODE/SYNC, 34 PLL/LPF, 35 PGOOD2, 36 PGOOD1, 37 RUN1, 38 RUN2

## LTC3812-5
designator IC?, comment 60V Current Mode Synchronous Switching Regulator Controller
VALUE2: LTC3812-5; SPICEMODEL: LTC3812-5.sub; SPICEPREFIX: X
footprint TSSOP16BA(FE)
pins: 1 ION, 2 VRNG, 3 PGOOD, 4 FCB, 5 ITH, 6 FB, 7 RUN/SS, 8 17 SGND, 9 NDRV, 10 EXTVCC, 11 INTVCC, 12 BG, 13 PGND, 14 SW, 15 TG, 16 BOOST

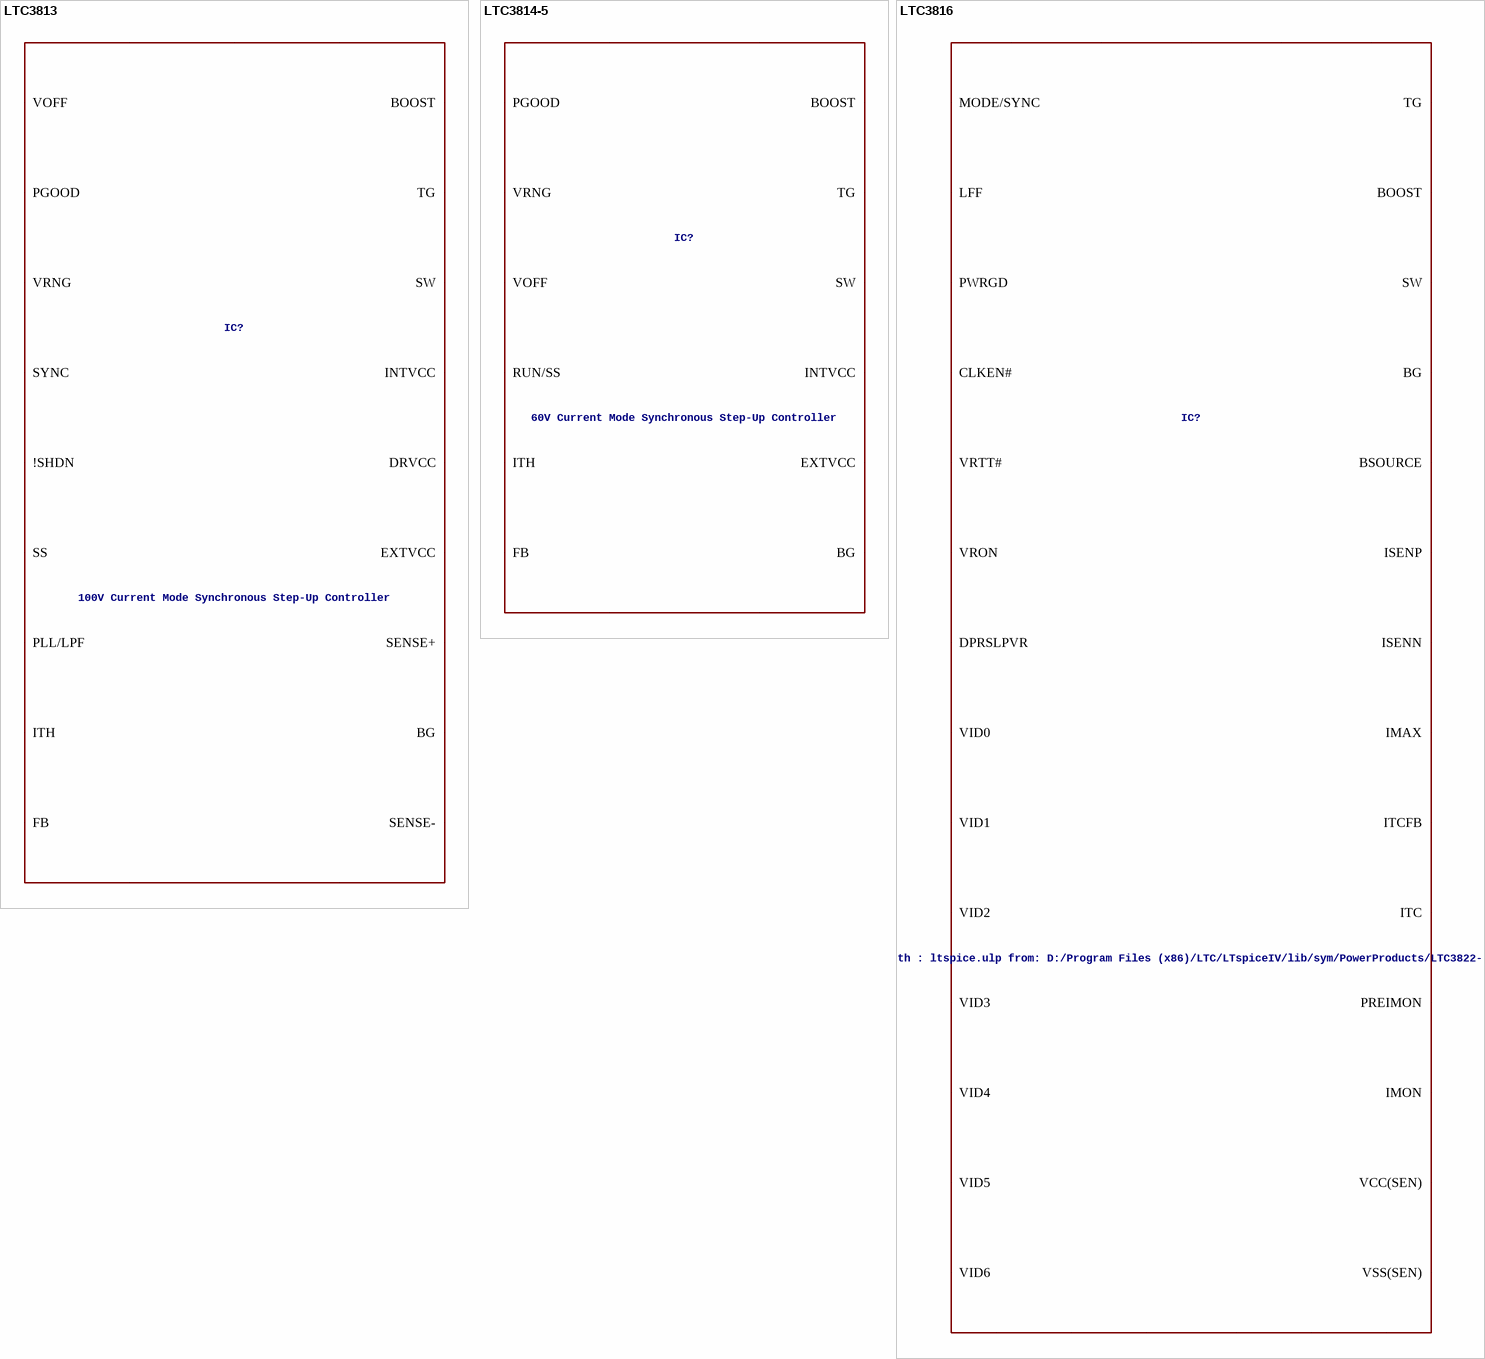
[diagram p86: symbols LTC3813 to LTC3816]

## LTC3813
designator IC?, comment 100V Current Mode Synchronous Step-Up Controller
VALUE2: LTC3813; SPICEMODEL: LTC3813.sub; SPICEPREFIX: X
footprint SSOP28(G)
pins: 1 IOFF, 4 VOFF, 5 VRNG, 6 PGOOD, 7 SYNC, 8 ITH, 9 FB, 10 PLL/LPF, 11 SS, 12 SGND, 13 !SHDN, 14 UVIN, 15 NDRV, 16 EXTVCC, 17 INTVCC, 18 DRVCC, 19 BG, 20 BGRTN, 21 SENSE-, 25 SENSE+, 26 SW, 27 TG, 28 BOOST

## LTC3814-5
designator IC?, comment 60V Current Mode Synchronous Step-Up Controller
VALUE2: LTC3814-5; SPICEMODEL: LTC3814-5.sub; SPICEPREFIX: X
footprint TSSOP16BA(FE)
pins: 1 IOFF, 2 VOFF, 3 VRNG, 4 PGOOD, 5 ITH, 6 FB, 7 RUN/SS, 8 17 SGND, 9 NDRV, 10 EXTVCC, 11 INTVCC, 12 BG, 13 PGND, 14 SW, 15 TG, 16 BOOST

## LTC3816
designator IC?, comment LT-Spice library generated with : ltspice.ulp from: D:/Program Files (x86)/LTC/LTspiceIV/lib/sym/PowerProducts/LTC3822-1*.asy at 07.10.2012 18:35:18
VALUE2: LTC3816; SPICEMODEL: LTC3816.sub; SPICEPREFIX: X
footprint TSSOP38AA(FE)
pins: 1 ISENN, 2 ITCFB, 3 ITC, 4 PREIMON, 5 IMON, 6 RPTC, 7 VRON, 8 VSS(SEN), 9 VCC(SEN), 10 SERVO, 11 FB, 12 COMP, 13 SS, 14 DPRSLPVR, 15 CSLEW, 16 VID0, 17 VID1, 18 VID2, 19 VID3, 20 VID4, 21 VID5, 22 VID6, 23 RFREQ, 24 MODE/SYNC, 25 BSOURCE, 26 BG, 27 INTVCC, 28 EXTVCC, 29 VIN, 30 BOOST, 31 TG, 32 SW, 33 PWRGD, 34 CLKEN#, 35 VRTT#, 36 LFF, 37 ISENP, 38 IMAX, 39 GND

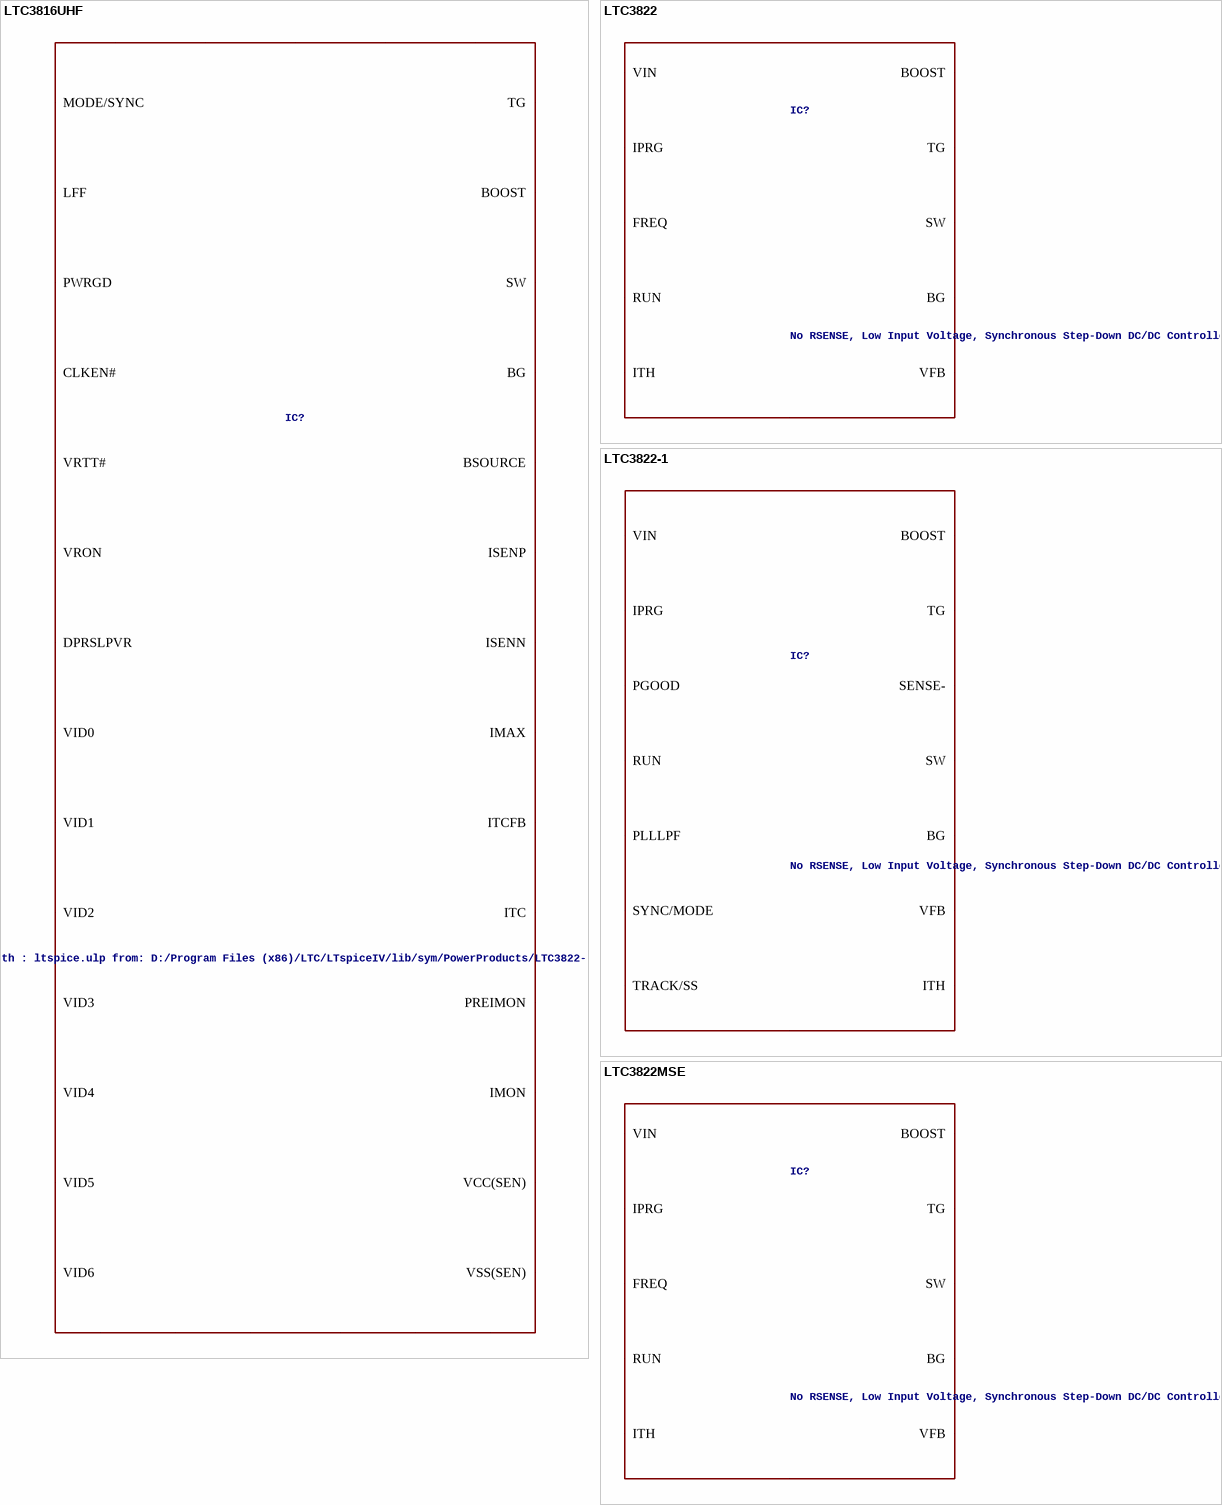
[diagram p87: symbols LTC3816UHF to LTC3822MSE]

## LTC3816UHF
designator IC?, comment LT-Spice library generated with : ltspice.ulp from: D:/Program Files (x86)/LTC/LTspiceIV/lib/sym/PowerProducts/LTC3822-1*.asy at 07.10.2012 18:35:18
VALUE2: LTC3816; SPICEMODEL: LTC3816.sub; SPICEPREFIX: X
footprint QFN38(UHF)
pins: 1 PREIMON, 2 IMON, 3 RPTC, 4 VRON, 5 VSS(SEN), 6 VCC(SEN), 7 SERVO, 8 FB, 9 COMP, 10 SS, 11 DPRSLPVR, 12 CSLEW, 13 VID0, 14 VID1, 15 VID2, 16 VID3, 17 VID4, 18 VID5, 19 VID6, 20 RFREQ, 21 MODE/SYNC, 22 BSOURCE, 23 BG, 24 INTVCC, 25 EXTVCC, 26 VIN, 27 BOOST, 28 TG, 29 SW, 30 PWRGD, 31 CLKEN#, 32 VRTT#, 33 LFF, 34 ISENP, 35 IMAX, 36 ISENN, 37 ITCFB, 38 ITC, 39 GND

## LTC3822
designator IC?, comment No RSENSE, Low Input Voltage, Synchronous Step-Down DC/DC Controller
VALUE2: LTC3822; SPICEMODEL: LTC3822.sub; SPICEPREFIX: X
footprint DFN10(DD)
pins: 1 BG, 2 TG, 3 BOOST, 4 VIN, 5 SW, 6 FREQ, 7 IPRG, 8 VFB, 9 ITH, 10 RUN, 11 GND

## LTC3822-1
designator IC?, comment No RSENSE, Low Input Voltage, Synchronous Step-Down DC/DC Controller
VALUE2: LTC3822-1; SPICEMODEL: LTC3822-1.sub; SPICEPREFIX: X
footprint SSOP16(GN)
pins: 1 9 GND, 2 PLLLPF, 3 SYNC/MODE, 4 PGOOD, 5 TRACK/SS, 6 VFB, 7 ITH, 8 RUN, 10 IPRG, 11 BG, 12 TG, 13 BOOST, 14 VIN, 15 SENSE-, 16 SW

## LTC3822MSE
designator IC?, comment No RSENSE, Low Input Voltage, Synchronous Step-Down DC/DC Controller
VALUE2: LTC3822; SPICEMODEL: LTC3822.sub; SPICEPREFIX: X
footprint MSOP10(MSE)
pins: 1 BG, 2 TG, 3 BOOST, 4 VIN, 5 SW, 6 FREQ, 7 IPRG, 8 VFB, 9 ITH, 10 RUN, 11 GND

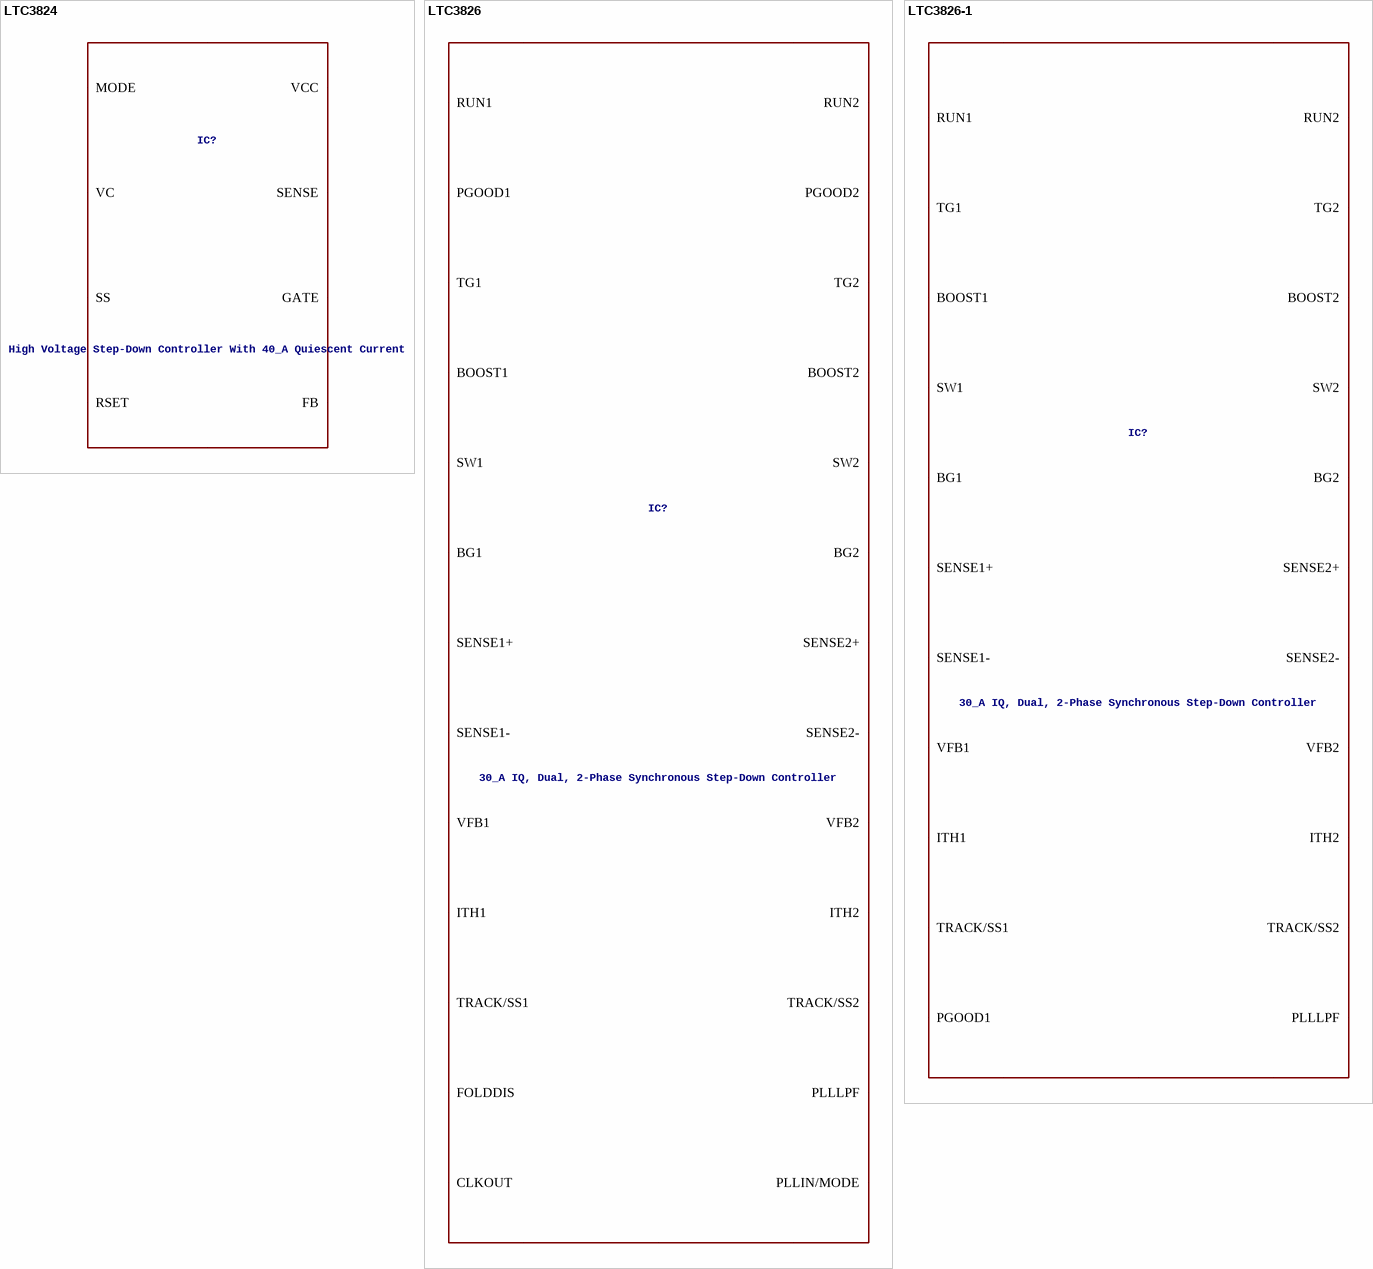
[diagram p88: symbols LTC3824 to LTC3826-1]

## LTC3824
designator IC?, comment High Voltage Step-Down Controller With 40_A Quiescent Current
VALUE2: LTC3824; SPICEMODEL: LTC3824.sub; SPICEPREFIX: X
footprint MSOP10(MSE)
pins: 1 11 GND, 2 MODE, 3 RSET, 4 VC, 5 FB, 6 SS, 7 SENSE, 8 VCC, 9 GATE, 10 CAP

## LTC3826
designator IC?, comment 30_A IQ, Dual, 2-Phase Synchronous Step-Down Controller
VALUE2: LTC3826; SPICEMODEL: LTC3826.sub; SPICEPREFIX: X
footprint QFN32(UH)
pins: 1 SENSE1-, 2 PLLLPF, 3 PHASEMD, 4 CLKOUT, 5 PLLIN/MODE, 6 33 SGND, 7 RUN1, 8 RUN2, 9 SENSE2-, 10 SENSE2+, 11 VFB2, 12 ITH2, 13 TRACK/SS2, 14 FOLDDIS, 15 TG2, 16 SW2, 17 BOOST2, 18 BG2, 19 INTVCC, 20 EXTVCC, 21 PGND, 22 VIN, 23 BG1, 24 BOOST1, 25 SW1, 26 TG1, 27 PGOOD1, 28 PGOOD2, 29 TRACK/SS1, 30 ITH1, 31 VFB1, 32 SENSE1+

## LTC3826-1
designator IC?, comment 30_A IQ, Dual, 2-Phase Synchronous Step-Down Controller
VALUE2: LTC3826-1; SPICEMODEL: LTC3826-1.sub; SPICEPREFIX: X
footprint SSOP28(G)
pins: 1 ITH1, 2 VFB1, 3 SENSE1+, 4 SENSE1-, 5 PLLLPF, 6 PLLIN/MODE, 7 SGND, 8 RUN1, 9 RUN2, 10 SENSE2-, 11 SENSE2+, 12 VFB2, 13 ITH2, 14 TRACK/SS2, 15 TG2, 16 SW2, 17 BOOST2, 18 BG2, 19 INTVCC, 20 EXTVCC, 21 PGND, 22 VIN, 23 BG1, 24 BOOST1, 25 SW1, 26 TG1, 27 PGOOD1, 28 TRACK/SS1